# Altium integrated library AD DSP 16-Bit.IntLib: 146 symbols (part 1 of 7)
Pins are listed as number, name and electrical type; pins without a type are passive.

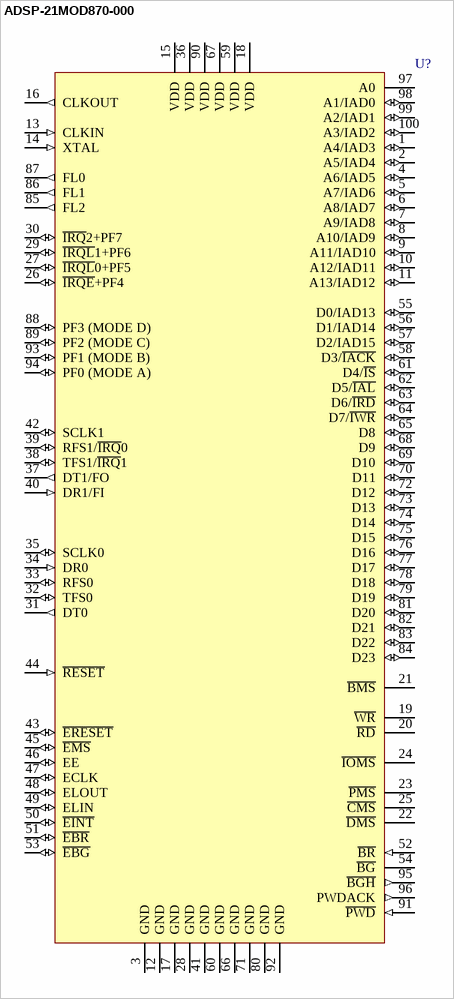
[diagram p0: symbol ADSP-21MOD870-000]

## ADSP-21MOD870-000
designator U?
First Complete Digital Modem On a Single Chip; Published: 24-Aug-2001; LatestRevisionDate: 13-Apr-2006; LatestRevisionNote: IPC-7351 Footprint Added.; DatasheetVersion: 1999; PackageVersion: 2000; PackageReference: ST-100; Publisher: Altium Limited; PackageDescription: 100-Pin Thin Plastic Quad Flat Pack 0.5 mm Pitch; ComponentLink1Description: Manufacturer Link; ComponentLink1URL: http://www.analog.com/; ComponentLink2Description: Datasheet; ComponentLink2URL: http://www.analog.com/UploadedFiles/Data_Sheets/228890382ADSP-21mod870_0.pdf
footprint ST-100_N (Thin QFP, 100-Leads, Body 14x14mm, Pitch 0.5mm, IPC Medium Density)
footprint ST-100_L (Thin QFP, 100-Leads, Body 14x14mm, Pitch 0.5mm, IPC High Density)
footprint ST-100_M (Thin QFP, 100-Leads, Body 14x14mm, Pitch 0.5mm, IPC Low Density)
3D model 21MOD870-ST100 (100-Pin Thin Plastic Quad Flat Pack 0.5 mm Pitch)
pins: 1 A4/IAD3 (io), 2 A5/IAD4 (io), 3 GND (power), 4 A6/IAD5 (io), 5 A7/IAD6 (io), 6 A8/IAD7 (io), 7 A9/IAD8 (io), 8 A10/IAD9 (io), 9 A11/IAD10 (io), 10 A12/IAD11 (io), 11 A13/IAD12 (io), 12 GND (power), 13 CLKIN (in), 14 XTAL (in), 15 VDD (power), 16 CLKOUT (out), 17 GND (power), 18 VDD (power), 19 ~{WR} (hiz), 20 ~{RD} (hiz), 21 ~{BMS} (hiz), 22 ~{DMS} (hiz), 23 ~{PMS} (hiz), 24 ~{IOMS} (hiz), 25 ~{CMS} (hiz), 26 ~{IRQE}+PF4 (io), 27 ~{IRQL}0+PF5 (io), 28 GND (power), 29 ~{IRQL}1+PF6 (io), 30 ~{IRQ}2+PF7 (io), 31 DT0 (out), 32 TFS0 (io), 33 RFS0 (io), 34 DR0 (in), 35 SCLK0 (io), 36 VDD (power), 37 DT1/FO (out), 38 TFS1/~{IRQ}1 (io), 39 RFS1/~{IRQ}0 (io), 40 DR1/FI (in), 41 GND (power), 42 SCLK1 (io), 43 ~{ERESET} (io), 44 ~{RESET} (in), 45 ~{EMS} (io), 46 EE (io), 47 ECLK (io), 48 ELOUT (io), 49 ELIN (io), 50 ~{EINT} (io), 51 ~{EBR} (io), 52 ~{BR} (in), 53 ~{EBG} (io), 54 ~{BG} (hiz), 55 D0/IAD13 (io), 56 D1/IAD14 (io), 57 D2/IAD15 (io), 58 D3/~{IACK} (io), 59 VDD (power), 60 GND (power), 61 D4/~{IS} (io), 62 D5/~{IAL} (io), 63 D6/~{IRD} (io), 64 D7/~{IWR} (io), 65 D8 (io), 66 GND (power), 67 VDD (power), 68 D9 (io), 69 D10 (io), 70 D11 (io), 71 GND (power), 72 D12 (io), 73 D13 (io), 74 D14 (io), 75 D15 (io), 76 D16 (io), 77 D17 (io), 78 D18 (io), 79 D19 (io), 80 GND (power), 81 D20 (io), 82 D21 (io), 83 D22 (io), 84 D23 (io), 85 FL2 (out), 86 FL1 (out), 87 FL0 (out), 88 PF3 (MODE D) (io), 89 PF2 (MODE C) (io), 90 VDD (power), 91 ~{PWD} (in), 92 GND (power), 93 PF1 (MODE B) (io), 94 PF0 (MODE A) (io), 95 ~{BGH} (out), 96 PWDACK (out), 97 A0 (hiz), 98 A1/IAD0 (io), 99 A2/IAD1 (io), 100 A3/IAD2 (io)

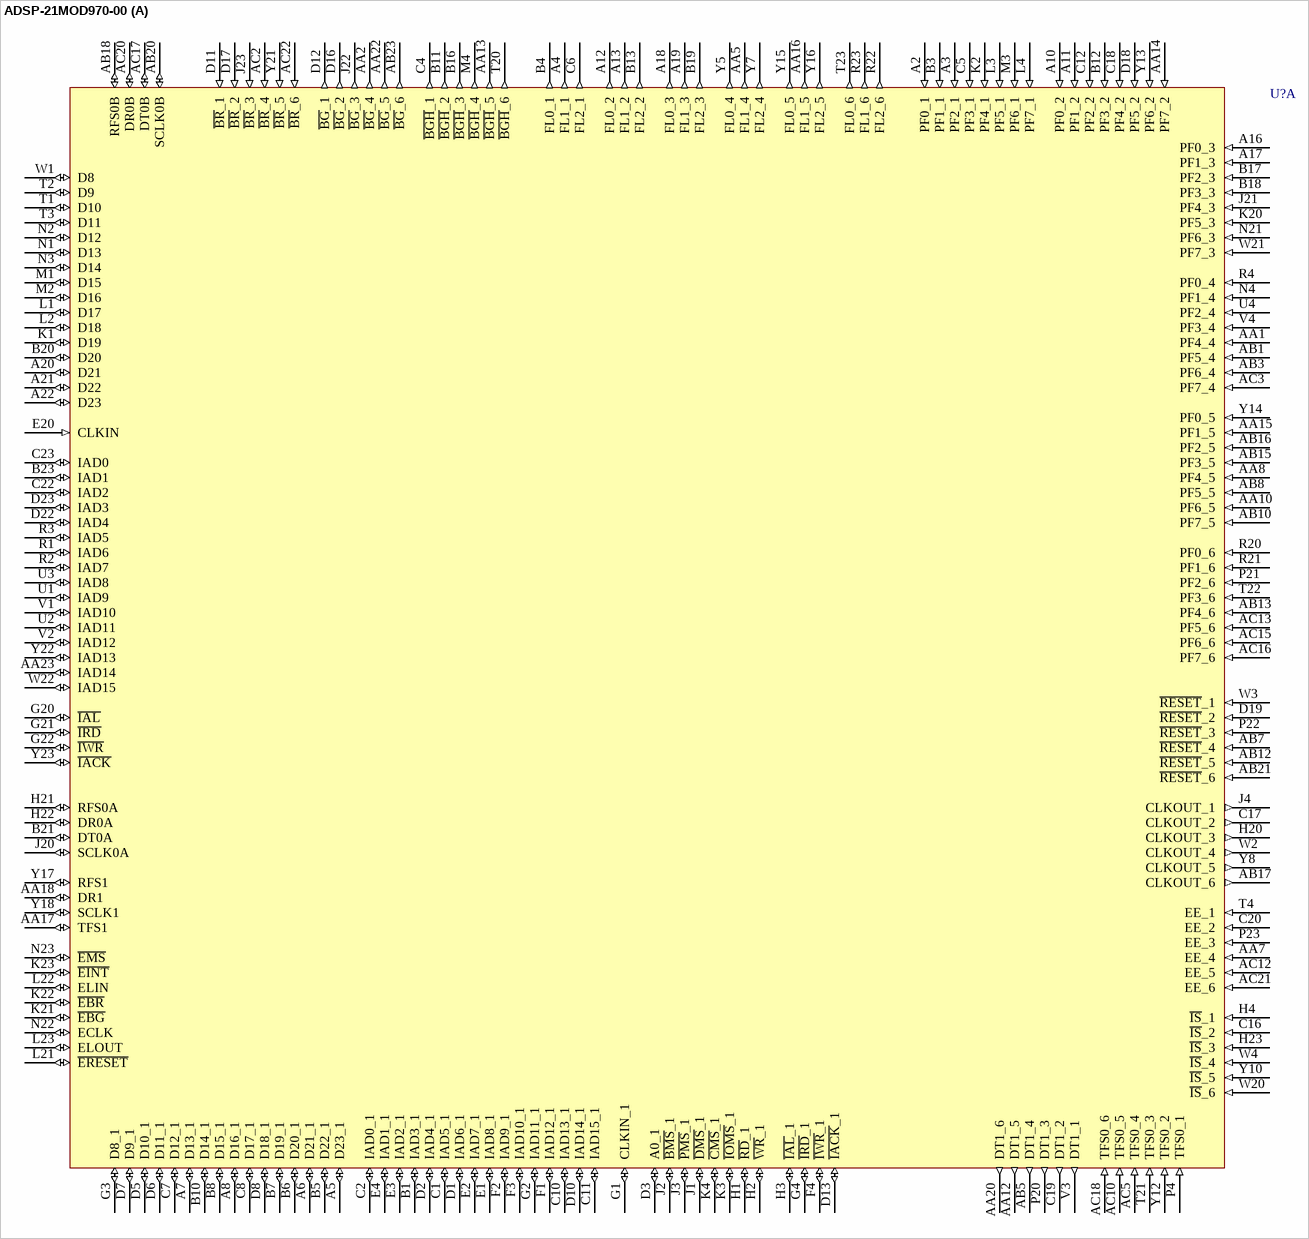
[diagram p1: symbol ADSP-21MOD970-00]

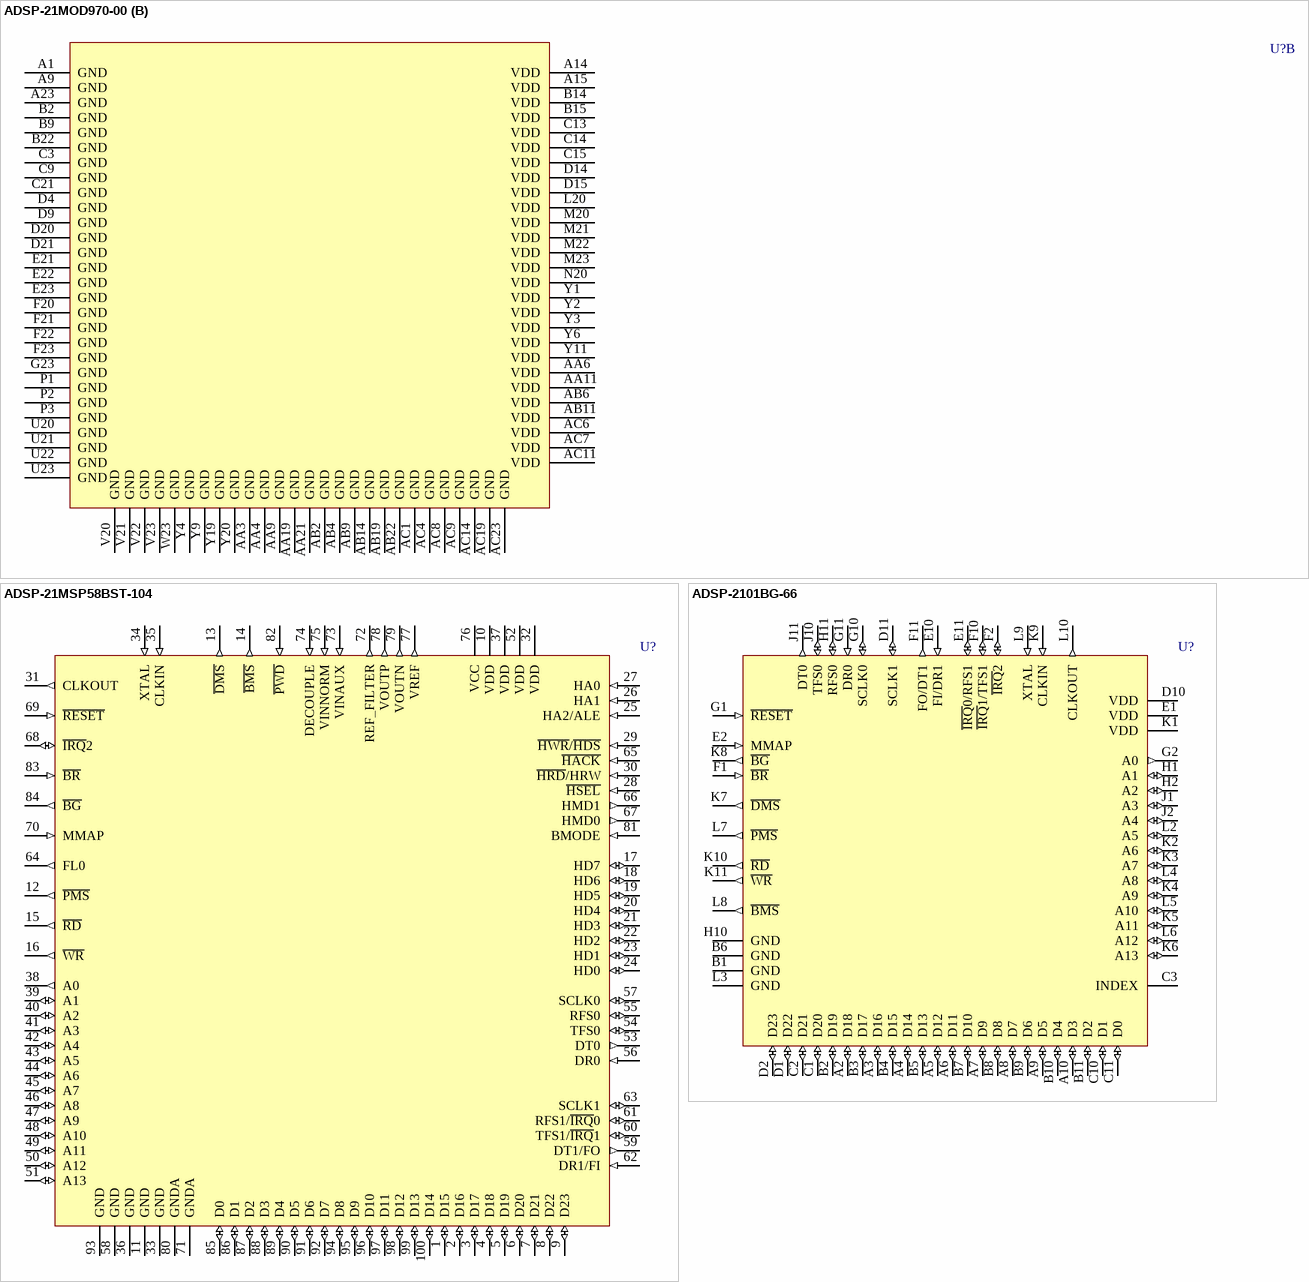
[diagram p2: symbols ADSP-21MOD970-00 to ADSP-2101BG-66]

## ADSP-21MOD970-00
designator U?
MultiPort Internet Gateway Processor; Published: 24-Aug-2001; LatestRevisionDate: 13-Apr-2006; LatestRevisionNote: IPC-7351 Footprint Added.; DatasheetVersion: 1999; PackageVersion: revA; PackageReference: BP-304; Publisher: Altium Limited; PackageDescription: 304-Ball Ball Grid Array 1.27 mm Pitch; ComponentLink1Description: Manufacturer Link; ComponentLink1URL: http://www.analog.com/; ComponentLink2Description: Datasheet; ComponentLink2URL: http://www.analog.com/UploadedFiles/Data_Sheets/217835067ADSP-21mod970-110_0.pdf
footprint BP-304 (BGA, 304-Leads, Body 31x31mm, Pitch 1.27mm)
3D model 21MOD970-BP304 (304-Ball Ball Grid Array 1.27 mm Pitch)
part A pins: A2 PF0_1 (in), A3 PF2_1 (in), A4 FL1_1 (out), A5 D23_1 (io), A6 D21_1 (io), A7 D13_1 (io), A8 D16_1 (io), A10 PF0_2 (in), A11 PF1_2 (in), A12 FL0_2 (out), A13 FL1_2 (out), A16 PF0_3 (in), A17 PF1_3 (in), A18 FL0_3 (out), A19 FL1_3 (out), A20 D21 (io), A21 D22 (io), A22 D23 (io), AA1 PF4_4 (in), AA2 ~{BG}_4 (out), AA5 FL1_4 (out), AA7 EE_4 (in), AA8 PF4_5 (in), AA10 PF6_5 (in), AA12 DT1_5 (out), AA13 ~{BGH}_5 (out), AA14 PF7_2 (in), AA15 PF1_5 (in), AA16 FL1_5 (out), AA17 TFS1 (io), AA18 DR1 (io), AA20 DT1_6 (out), AA22 ~{BG}_5 (out), AA23 IAD14 (io), AB1 PF5_4 (in), AB3 PF6_4 (in), AB5 DT1_4 (out), AB7 ~{RESET}_4 (in), AB8 PF5_5 (in), AB10 PF7_5 (in), AB12 ~{RESET}_5 (in), AB13 PF4_6 (in), AB15 PF3_5 (in), AB16 PF2_5 (in), AB17 CLKOUT_6 (out), AB18 RFS0B (io), AB20 SCLK0B (io), AB21 ~{RESET}_6 (in), AB23 ~{BG}_6 (out), AC2 ~{BR}_4 (in), AC3 PF7_4 (in), AC5 TFS0_4 (in), AC10 TFS0_5 (in), AC12 EE_5 (in), AC13 PF5_6 (in), AC15 PF6_6 (in), AC16 PF7_6 (in), AC17 DT0B (io), AC18 TFS0_6 (in), AC20 DR0B (io), AC21 EE_6 (in), AC22 ~{BR}_6 (in), B1 IAD3_1 (io), B3 PF1_1 (in), B4 FL0_1 (out), B5 D22_1 (io), B6 D20_1 (io), B7 D19_1 (io), B8 D15_1 (io), B10 D14_1 (io), B11 ~{BGH}_2 (out), B12 PF3_2 (in), B13 FL2_2 (out), B16 ~{BGH}_3 (out), B17 PF2_3 (in), B18 PF3_3 (in), B19 FL2_3 (out), B20 D20 (io), B21 DT0A (io), B23 IAD1 (io), C1 IAD5_1 (io), C2 IAD0_1 (io), C4 ~{BGH}_1 (out), C5 PF3_1 (in), C6 FL2_1 (out), C7 D12_1 (io), C8 D17_1 (io), C10 IAD13_1 (io), C11 IAD15_1 (io), C12 PF2_2 (in), C16 ~{IS}_2 (in), C17 CLKOUT_2 (out), C18 PF4_2 (in), C19 DT1_2 (out), C20 EE_2 (in), C22 IAD2 (io), C23 IAD0 (io), D1 IAD6_1 (io), D2 IAD4_1 (io), D3 A0_1 (io), D5 D10_1 (io), D6 D11_1 (io), D7 D9_1 (io), D8 D18_1 (io), D10 IAD14_1 (io), D11 ~{BR}_1 (in), D12 ~{BG}_1 (out), D13 ~{IACK}_1 (io), D16 ~{BG}_2 (out), D17 ~{BR}_2 (in), D18 PF5_2 (in), D19 ~{RESET}_2 (in), D22 IAD4 (io), D23 IAD3 (io), E1 IAD8_1 (io), E2 IAD7_1 (io), E3 IAD2_1 (io), E4 IAD1_1 (io), E20 CLKIN (in), F1 IAD12_1 (io), F2 IAD9_1 (io), F3 IAD10_1 (io), F4 ~{IWR}_1 (io), G1 CLKIN_1 (io), G2 IAD11_1 (io), G3 D8_1 (io), G4 ~{IRD}_1 (io), G20 ~{IAL} (io), G21 ~{IRD} (io), G22 ~{IWR} (io), H1 ~{RD}_1 (io), H2 ~{WR}_1 (io), H3 ~{IAL}_1 (io), H4 ~{IS}_1 (in), H20 CLKOUT_3 (out), H21 RFS0A (io), H22 DR0A (io), H23 ~{IS}_3 (in), J1 ~{DMS}_1 (io), J2 ~{BMS}_1 (io), J3 ~{PMS}_1 (io), J4 CLKOUT_1 (out), J20 SCLK0A (io), J21 PF4_3 (in), J22 ~{BG}_3 (out), J23 ~{BR}_3 (in), K1 D19 (io), K2 PF4_1 (in), K3 ~{IOMS}_1 (io), K4 ~{CMS}_1 (io), K20 PF5_3 (in), K21 ~{EBG} (io), K22 ~{EBR} (io), K23 ~{EINT} (io), L1 D17 (io), L2 D18 (io), L3 PF5_1 (in), L4 PF7_1 (in), L21 ~{ERESET} (io), L22 ELIN (io), L23 ELOUT (io), M1 D15 (io), M2 D16 (io), M3 PF6_1 (in), M4 ~{BGH}_4 (out), N1 D13 (io), N2 D12 (io), N3 D14 (io), N4 PF1_4 (in), N21 PF6_3 (in), N22 ECLK (io), N23 ~{EMS} (io), P4 TFS0_1 (in), P20 DT1_3 (out), P21 PF2_6 (in), P22 ~{RESET}_3 (in), P23 EE_3 (in), R1 IAD6 (io), R2 IAD7 (io), R3 IAD5 (io), R4 PF0_4 (in), R20 PF0_6 (in), R21 PF1_6 (in), R22 FL2_6 (out), R23 FL1_6 (out), T1 D10 (io), T2 D9 (io), T3 D11 (io), T4 EE_1 (in), T20 ~{BGH}_6 (out), T21 TFS0_3 (in), T22 PF3_6 (in), T23 FL0_6 (out), U1 IAD9 (io), U2 IAD11 (io), U3 IAD8 (io), U4 PF2_4 (in), V1 IAD10 (io), V2 IAD12 (io), V3 DT1_1 (out), V4 PF3_4 (in), W1 D8 (io), W2 CLKOUT_4 (out), W3 ~{RESET}_1 (in), W4 ~{IS}_4 (in), W20 ~{IS}_6 (in), W21 PF7_3 (in), W22 IAD15 (io), Y5 FL0_4 (out), Y7 FL2_4 (out), Y8 CLKOUT_5 (out), Y10 ~{IS}_5 (in), Y12 TFS0_2 (in), Y13 PF6_2 (in), Y14 PF0_5 (in), Y15 FL0_5 (out), Y16 FL2_5 (out), Y17 RFS1 (io), Y18 SCLK1 (io), Y21 ~{BR}_5 (in), Y22 IAD13 (io), Y23 ~{IACK} (io)
part B pins: A1 GND (power), A9 GND (power), A14 VDD (power), A15 VDD (power), A23 GND (power), AA3 GND (power), AA4 GND (power), AA6 VDD (power), AA9 GND (power), AA11 VDD (power), AA19 GND (power), AA21 GND (power), AB2 GND (power), AB4 GND (power), AB6 VDD (power), AB9 GND (power), AB11 VDD (power), AB14 GND (power), AB19 GND (power), AB22 GND (power), AC1 GND (power), AC4 GND (power), AC6 VDD (power), AC7 VDD (power), AC8 GND (power), AC9 GND (power), AC11 VDD (power), AC14 GND (power), AC19 GND (power), AC23 GND (power), B2 GND (power), B9 GND (power), B14 VDD (power), B15 VDD (power), B22 GND (power), C3 GND (power), C9 GND (power), C13 VDD (power), C14 VDD (power), C15 VDD (power), C21 GND (power), D4 GND (power), D9 GND (power), D14 VDD (power), D15 VDD (power), D20 GND (power), D21 GND (power), E21 GND (power), E22 GND (power), E23 GND (power), F20 GND (power), F21 GND (power), F22 GND (power), F23 GND (power), G23 GND (power), L20 VDD (power), M20 VDD (power), M21 VDD (power), M22 VDD (power), M23 VDD (power), N20 VDD (power), P1 GND (power), P2 GND (power), P3 GND (power), U20 GND (power), U21 GND (power), U22 GND (power), U23 GND (power), V20 GND (power), V21 GND (power), V22 GND (power), V23 GND (power), W23 GND (power), Y1 VDD (power), Y2 VDD (power), Y3 VDD (power), Y4 GND (power), Y6 VDD (power), Y9 GND (power), Y11 VDD (power), Y19 GND (power), Y20 GND (power)

## ADSP-21MSP58BST-104
designator U?
Fully-Integrated, Single-Chip DSP; Published: 24-Aug-2001; LatestRevisionDate: 13-Apr-2006; LatestRevisionNote: IPC-7351 Footprint Added.; DatasheetVersion: 1995; PackageVersion: 2000; PackageReference: ST-100; Publisher: Altium Limited; PackageDescription: 100-Pin Thin Plastic Quad Flat Pack 0.5 mm Pitch; ComponentLink1Description: Manufacturer Link; ComponentLink1URL: http://www.analog.com/; ComponentLink2Description: Datasheet; ComponentLink2URL: http://www.analog.com/UploadedFiles/Data_Sheets/411008276ADSP-21msp58_0.pdf
footprint ST-100_N (Thin QFP, 100-Leads, Body 14x14mm, Pitch 0.5mm, IPC Medium Density)
footprint ST-100_L (Thin QFP, 100-Leads, Body 14x14mm, Pitch 0.5mm, IPC High Density)
footprint ST-100_M (Thin QFP, 100-Leads, Body 14x14mm, Pitch 0.5mm, IPC Low Density)
3D model 21MSP58-ST100 (100-Pin Thin Plastic Quad Flat Pack 0.5 mm Pitch)
pins: 1 D15 (io), 2 D16 (io), 3 D17 (io), 4 D18 (io), 5 D19 (io), 6 D20 (io), 7 D21 (io), 8 D22 (io), 9 D23 (io), 10 VDD (power), 11 GND (power), 12 ~{PMS} (out), 13 ~{DMS} (out), 14 ~{BMS} (out), 15 ~{RD} (out), 16 ~{WR} (out), 17 HD7 (io), 18 HD6 (io), 19 HD5 (io), 20 HD4 (io), 21 HD3 (io), 22 HD2 (io), 23 HD1 (io), 24 HD0 (io), 25 HA2/ALE (in), 26 HA1 (in), 27 HA0 (in), 28 ~{HSEL} (in), 29 ~{HWR}/~{HDS} (in), 30 ~{HRD}/HRW (in), 31 CLKOUT (out), 32 VDD (power), 33 GND (power), 34 XTAL (in), 35 CLKIN (in), 36 GND (power), 37 VDD (power), 38 A0 (out), 39 A1 (io), 40 A2 (io), 41 A3 (io), 42 A4 (io), 43 A5 (io), 44 A6 (io), 45 A7 (io), 46 A8 (io), 47 A9 (io), 48 A10 (io), 49 A11 (io), 50 A12 (io), 51 A13 (io), 52 VDD (power), 53 DT0 (out), 54 TFS0 (io), 55 RFS0 (io), 56 DR0 (in), 57 SCLK0 (io), 58 GND (power), 59 DT1/FO (out), 60 TFS1/~{IRQ}1 (io), 61 RFS1/~{IRQ}0 (io), 62 DR1/FI (in), 63 SCLK1 (io), 64 FL0 (out), 65 ~{HACK} (in), 66 HMD1 (out), 67 HMD0 (out), 68 ~{IRQ}2 (io), 69 ~{RESET} (in), 70 MMAP (in), 71 GNDA (power), 72 REF_FILTER (out), 73 VINAUX (in), 74 DECOUPLE (in), 75 VINNORM (in), 76 VCC (power), 77 VREF (out), 78 VOUTP (out), 79 VOUTN (out), 80 GNDA (power), 81 BMODE (in), 82 ~{PWD} (in), 83 ~{BR} (in), 84 ~{BG} (out), 85 D0 (io), 86 D1 (io), 87 D2 (io), 88 D3 (io), 89 D4 (io), 90 D5 (io), 91 D6 (io), 92 D7 (io), 93 GND (power), 94 D8 (io), 95 D9 (io), 96 D10 (io), 97 D11 (io), 98 D12 (io), 99 D13 (io), 100 D14 (io)

## ADSP-2101BG-66
designator U?
25 MIPS, 5V, 2 Serial Ports; Published: 24-Aug-2001; LatestRevisionDate: 04-Mar-2005; LatestRevisionNote: Stylized 3D Model Added.; DatasheetVersion: 1996; PackageReference: G-68A; Publisher: Altium Limited; PackageDescription: 69-Pin Pin Grid Array 2.54 mm Pitch; ComponentLink1Description: Manufacturer Link; ComponentLink1URL: http://www.analog.com/; ComponentLink2Description: Datasheet; ComponentLink2URL: http://www.analog.com/UploadedFiles/Data_Sheets/88076770adsp21xx.pdf
footprint G-68A (PGA, 69-Leads, Body 28x28mm, Pitch 2.54mm)
3D model 2101-G68A (69-Pin Pin Grid Array 2.54 mm Pitch)
pins: A2 D18 (io), A3 D16 (io), A4 D14 (io), A5 D12 (io), A6 D11 (io), A7 D9 (io), A8 D7 (io), A9 D5 (io), A10 D3 (io), B1 GND (power), B2 D19 (io), B3 D17 (io), B4 D15 (io), B5 D13 (io), B6 GND (power), B7 D10 (io), B8 D8 (io), B9 D6 (io), B10 D4 (io), B11 D2 (io), C1 D20 (io), C2 D21 (io), C3 INDEX, C10 D1 (io), C11 D0 (io), D1 D22 (io), D2 D23 (io), D10 VDD (power), D11 SCLK1 (io), E1 VDD (power), E2 MMAP (in), E10 FI/DR1 (in), E11 ~{IRQ}0/RFS1 (io), F1 ~{BR} (in), F2 ~{IRQ}2 (io), F10 ~{IRQ}1/TFS1 (io), F11 FO/DT1 (out), G1 ~{RESET} (in), G2 A0 (out), G10 SCLK0 (io), G11 DR0 (in), H1 A1 (io), H2 A2 (io), H10 GND (power), H11 RFS0 (io), J1 A3 (io), J2 A4 (io), J10 TFS0 (io), J11 DT0 (out), K1 VDD (power), K2 A6 (io), K3 A7 (io), K4 A9 (io), K5 A11 (io), K6 A13 (io), K7 ~{DMS} (out), K8 ~{BG} (out), K9 CLKIN (in), K10 ~{RD} (out), K11 ~{WR} (out), L2 A5 (io), L3 GND (power), L4 A8 (io), L5 A10 (io), L6 A12 (io), L7 ~{PMS} (out), L8 ~{BMS} (out), L9 XTAL (in), L10 CLKOUT (out)

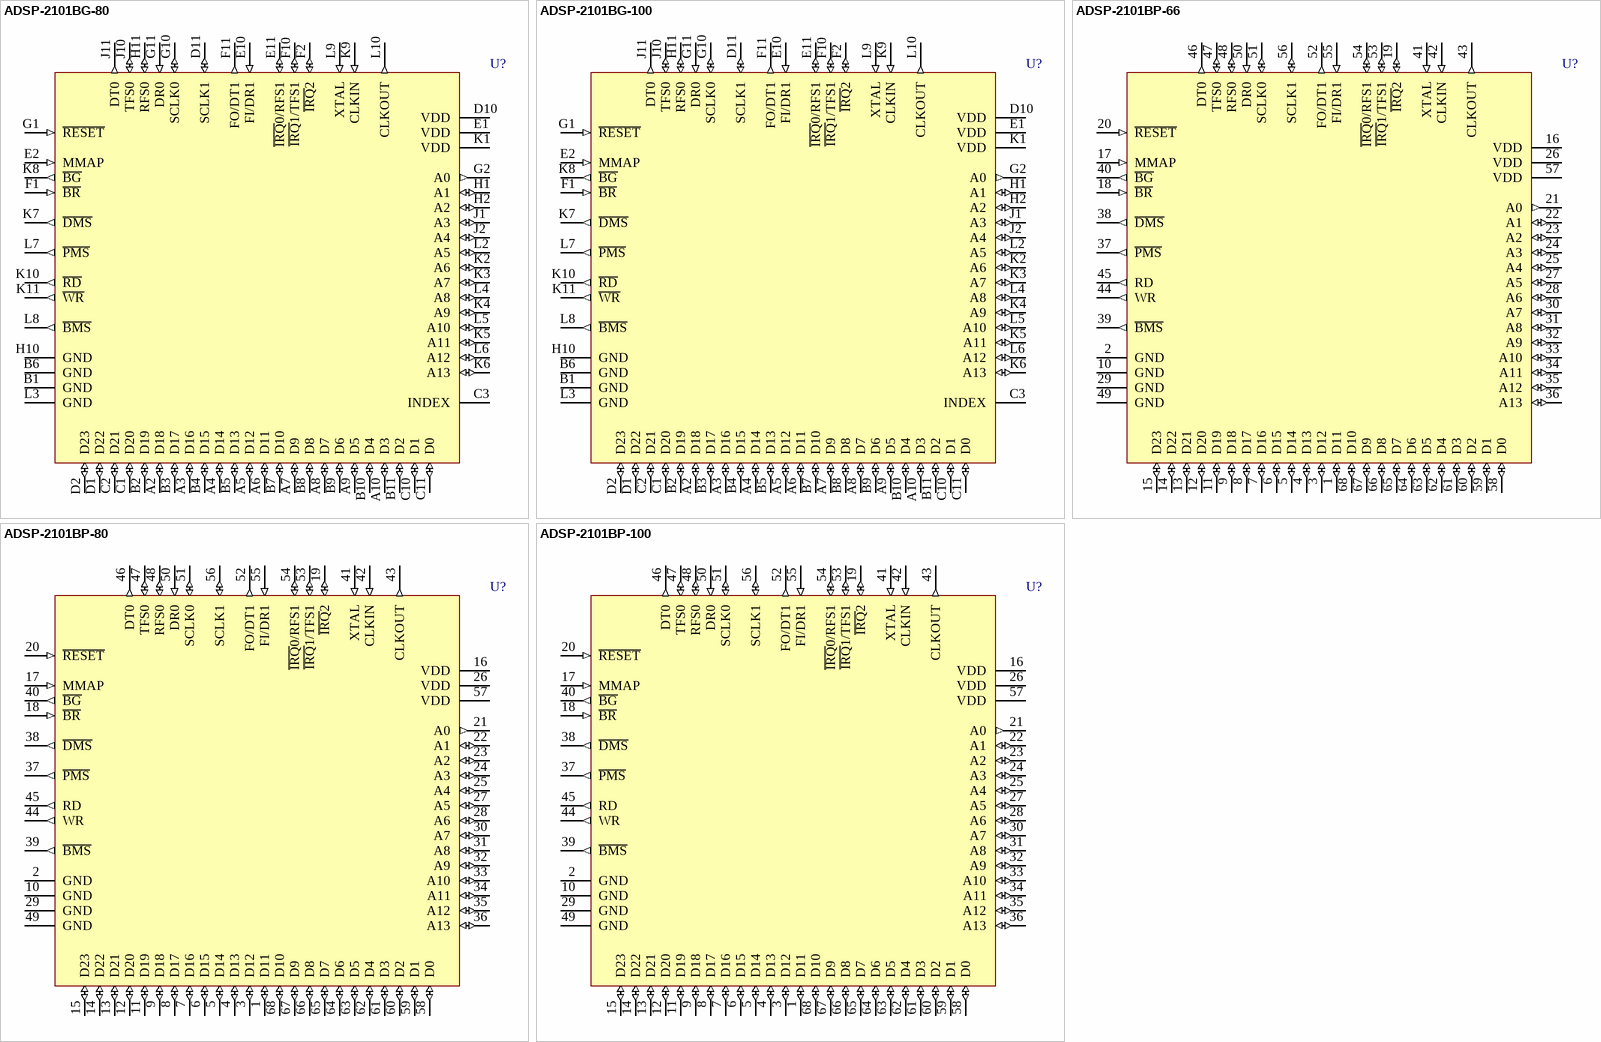
[diagram p3: symbols ADSP-2101BG-80 to ADSP-2101BP-100]

## ADSP-2101BG-80
designator U?
25 MIPS, 5V, 2 Serial Ports; Published: 24-Aug-2001; LatestRevisionDate: 04-Mar-2005; LatestRevisionNote: Stylized 3D Model Added.; DatasheetVersion: 1996; PackageReference: G-68A; Publisher: Altium Limited; PackageDescription: 69-Pin Pin Grid Array 2.54 mm Pitch; ComponentLink1Description: Manufacturer Link; ComponentLink1URL: http://www.analog.com/; ComponentLink2Description: Datasheet; ComponentLink2URL: http://www.analog.com/UploadedFiles/Data_Sheets/88076770adsp21xx.pdf
footprint G-68A (PGA, 69-Leads, Body 28x28mm, Pitch 2.54mm)
3D model 2101-G68A (69-Pin Pin Grid Array 2.54 mm Pitch)
pins: A2 D18 (io), A3 D16 (io), A4 D14 (io), A5 D12 (io), A6 D11 (io), A7 D9 (io), A8 D7 (io), A9 D5 (io), A10 D3 (io), B1 GND (power), B2 D19 (io), B3 D17 (io), B4 D15 (io), B5 D13 (io), B6 GND (power), B7 D10 (io), B8 D8 (io), B9 D6 (io), B10 D4 (io), B11 D2 (io), C1 D20 (io), C2 D21 (io), C3 INDEX, C10 D1 (io), C11 D0 (io), D1 D22 (io), D2 D23 (io), D10 VDD (power), D11 SCLK1 (io), E1 VDD (power), E2 MMAP (in), E10 FI/DR1 (in), E11 ~{IRQ}0/RFS1 (io), F1 ~{BR} (in), F2 ~{IRQ}2 (io), F10 ~{IRQ}1/TFS1 (io), F11 FO/DT1 (out), G1 ~{RESET} (in), G2 A0 (out), G10 SCLK0 (io), G11 DR0 (in), H1 A1 (io), H2 A2 (io), H10 GND (power), H11 RFS0 (io), J1 A3 (io), J2 A4 (io), J10 TFS0 (io), J11 DT0 (out), K1 VDD (power), K2 A6 (io), K3 A7 (io), K4 A9 (io), K5 A11 (io), K6 A13 (io), K7 ~{DMS} (out), K8 ~{BG} (out), K9 CLKIN (in), K10 ~{RD} (out), K11 ~{WR} (out), L2 A5 (io), L3 GND (power), L4 A8 (io), L5 A10 (io), L6 A12 (io), L7 ~{PMS} (out), L8 ~{BMS} (out), L9 XTAL (in), L10 CLKOUT (out)

## ADSP-2101BG-100
designator U?
25 MIPS, 5V, 2 Serial Ports; Published: 24-Aug-2001; LatestRevisionDate: 04-Mar-2005; LatestRevisionNote: Stylized 3D Model Added.; DatasheetVersion: 1996; PackageReference: G-68A; Publisher: Altium Limited; PackageDescription: 69-Pin Pin Grid Array 2.54 mm Pitch; ComponentLink1Description: Manufacturer Link; ComponentLink1URL: http://www.analog.com/; ComponentLink2Description: Datasheet; ComponentLink2URL: http://www.analog.com/UploadedFiles/Data_Sheets/88076770adsp21xx.pdf
footprint G-68A (PGA, 69-Leads, Body 28x28mm, Pitch 2.54mm)
3D model 2101-G68A (69-Pin Pin Grid Array 2.54 mm Pitch)
pins: A2 D18 (io), A3 D16 (io), A4 D14 (io), A5 D12 (io), A6 D11 (io), A7 D9 (io), A8 D7 (io), A9 D5 (io), A10 D3 (io), B1 GND (power), B2 D19 (io), B3 D17 (io), B4 D15 (io), B5 D13 (io), B6 GND (power), B7 D10 (io), B8 D8 (io), B9 D6 (io), B10 D4 (io), B11 D2 (io), C1 D20 (io), C2 D21 (io), C3 INDEX, C10 D1 (io), C11 D0 (io), D1 D22 (io), D2 D23 (io), D10 VDD (power), D11 SCLK1 (io), E1 VDD (power), E2 MMAP (in), E10 FI/DR1 (in), E11 ~{IRQ}0/RFS1 (io), F1 ~{BR} (in), F2 ~{IRQ}2 (io), F10 ~{IRQ}1/TFS1 (io), F11 FO/DT1 (out), G1 ~{RESET} (in), G2 A0 (out), G10 SCLK0 (io), G11 DR0 (in), H1 A1 (io), H2 A2 (io), H10 GND (power), H11 RFS0 (io), J1 A3 (io), J2 A4 (io), J10 TFS0 (io), J11 DT0 (out), K1 VDD (power), K2 A6 (io), K3 A7 (io), K4 A9 (io), K5 A11 (io), K6 A13 (io), K7 ~{DMS} (out), K8 ~{BG} (out), K9 CLKIN (in), K10 ~{RD} (out), K11 ~{WR} (out), L2 A5 (io), L3 GND (power), L4 A8 (io), L5 A10 (io), L6 A12 (io), L7 ~{PMS} (out), L8 ~{BMS} (out), L9 XTAL (in), L10 CLKOUT (out)

## ADSP-2101BP-66
designator U?
25 MIPS, 5V, 2 Serial Ports; Published: 24-Aug-2001; LatestRevisionDate: 13-Apr-2006; LatestRevisionNote: IPC-7351 Footprint Added.; DatasheetVersion: 1996; PackageReference: P-68A; Publisher: Altium Limited; PackageDescription: 68-Pin Leaded Chip Carrier 1.27 mm Pitch; Code_IPC: PLCC-68; ComponentLink1Description: Manufacturer Link; ComponentLink1URL: http://www.analog.com/; ComponentLink2Description: Datasheet; ComponentLink2URL: http://www.analog.com/UploadedFiles/Data_Sheets/88076770adsp21xx.pdf
footprint P-68A_N (Leaded Chip Carrier, 68-Leads, Body 24x24mm, Pitch 1.27mm, IPC Medium Density)
footprint P-68A_L (Leaded Chip Carrier, 68-Leads, Body 24x24mm, Pitch 1.27mm, IPC High Density)
footprint P-68A_M (Leaded Chip Carrier, 68-Leads, Body 24x24mm, Pitch 1.27mm, IPC Low Density)
3D model 2101-P-68A (68-Pin Leaded Chip Carrier 1.27 mm Pitch)
pins: 1 D11 (io), 2 GND (power), 3 D12 (io), 4 D13 (io), 5 D14 (io), 6 D15 (io), 7 D16 (io), 8 D17 (io), 9 D18 (io), 10 GND (power), 11 D19 (io), 12 D20 (io), 13 D21 (io), 14 D22 (io), 15 D23 (io), 16 VDD (power), 17 MMAP (in), 18 ~{BR} (in), 19 ~{IRQ}2 (io), 20 ~{RESET} (in), 21 A0 (out), 22 A1 (io), 23 A2 (io), 24 A3 (io), 25 A4 (io), 26 VDD (power), 27 A5 (io), 28 A6 (io), 29 GND (power), 30 A7 (io), 31 A8 (io), 32 A9 (io), 33 A10 (io), 34 A11 (io), 35 A12 (io), 36 A13 (io), 37 ~{PMS} (out), 38 ~{DMS} (out), 39 ~{BMS} (out), 40 ~{BG} (out), 41 XTAL (in), 42 CLKIN (in), 43 CLKOUT (out), 44 WR (out), 45 RD (out), 46 DT0 (out), 47 TFS0 (io), 48 RFS0 (io), 49 GND (power), 50 DR0 (in), 51 SCLK0 (io), 52 FO/DT1 (out), 53 ~{IRQ}1/TFS1 (io), 54 ~{IRQ}0/RFS1 (io), 55 FI/DR1 (in), 56 SCLK1 (io), 57 VDD (power), 58 D0 (io), 59 D1 (io), 60 D2 (io), 61 D3 (io), 62 D4 (io), 63 D5 (io), 64 D6 (io), 65 D7 (io), 66 D8 (io), 67 D9 (io), 68 D10 (io)

## ADSP-2101BP-80
designator U?
25 MIPS, 5V, 2 Serial Ports; Published: 24-Aug-2001; LatestRevisionDate: 13-Apr-2006; LatestRevisionNote: IPC-7351 Footprint Added.; DatasheetVersion: 1996; PackageReference: P-68A; Publisher: Altium Limited; PackageDescription: 68-Pin Leaded Chip Carrier 1.27 mm Pitch; Code_IPC: PLCC-68; ComponentLink1Description: Manufacturer Link; ComponentLink1URL: http://www.analog.com/; ComponentLink2Description: Datasheet; ComponentLink2URL: http://www.analog.com/UploadedFiles/Data_Sheets/88076770adsp21xx.pdf
footprint P-68A_N (Leaded Chip Carrier, 68-Leads, Body 24x24mm, Pitch 1.27mm, IPC Medium Density)
footprint P-68A_L (Leaded Chip Carrier, 68-Leads, Body 24x24mm, Pitch 1.27mm, IPC High Density)
footprint P-68A_M (Leaded Chip Carrier, 68-Leads, Body 24x24mm, Pitch 1.27mm, IPC Low Density)
3D model 2101-P-68A (68-Pin Leaded Chip Carrier 1.27 mm Pitch)
pins: 1 D11 (io), 2 GND (power), 3 D12 (io), 4 D13 (io), 5 D14 (io), 6 D15 (io), 7 D16 (io), 8 D17 (io), 9 D18 (io), 10 GND (power), 11 D19 (io), 12 D20 (io), 13 D21 (io), 14 D22 (io), 15 D23 (io), 16 VDD (power), 17 MMAP (in), 18 ~{BR} (in), 19 ~{IRQ}2 (io), 20 ~{RESET} (in), 21 A0 (out), 22 A1 (io), 23 A2 (io), 24 A3 (io), 25 A4 (io), 26 VDD (power), 27 A5 (io), 28 A6 (io), 29 GND (power), 30 A7 (io), 31 A8 (io), 32 A9 (io), 33 A10 (io), 34 A11 (io), 35 A12 (io), 36 A13 (io), 37 ~{PMS} (out), 38 ~{DMS} (out), 39 ~{BMS} (out), 40 ~{BG} (out), 41 XTAL (in), 42 CLKIN (in), 43 CLKOUT (out), 44 WR (out), 45 RD (out), 46 DT0 (out), 47 TFS0 (io), 48 RFS0 (io), 49 GND (power), 50 DR0 (in), 51 SCLK0 (io), 52 FO/DT1 (out), 53 ~{IRQ}1/TFS1 (io), 54 ~{IRQ}0/RFS1 (io), 55 FI/DR1 (in), 56 SCLK1 (io), 57 VDD (power), 58 D0 (io), 59 D1 (io), 60 D2 (io), 61 D3 (io), 62 D4 (io), 63 D5 (io), 64 D6 (io), 65 D7 (io), 66 D8 (io), 67 D9 (io), 68 D10 (io)

## ADSP-2101BP-100
designator U?
25 MIPS, 5V, 2 Serial Ports; Published: 24-Aug-2001; LatestRevisionDate: 13-Apr-2006; LatestRevisionNote: IPC-7351 Footprint Added.; DatasheetVersion: 1996; PackageReference: P-68A; Publisher: Altium Limited; PackageDescription: 68-Pin Leaded Chip Carrier 1.27 mm Pitch; Code_IPC: PLCC-68; ComponentLink1Description: Manufacturer Link; ComponentLink1URL: http://www.analog.com/; ComponentLink2Description: Datasheet; ComponentLink2URL: http://www.analog.com/UploadedFiles/Data_Sheets/88076770adsp21xx.pdf
footprint P-68A_N (Leaded Chip Carrier, 68-Leads, Body 24x24mm, Pitch 1.27mm, IPC Medium Density)
footprint P-68A_L (Leaded Chip Carrier, 68-Leads, Body 24x24mm, Pitch 1.27mm, IPC High Density)
footprint P-68A_M (Leaded Chip Carrier, 68-Leads, Body 24x24mm, Pitch 1.27mm, IPC Low Density)
3D model 2101-P-68A (68-Pin Leaded Chip Carrier 1.27 mm Pitch)
pins: 1 D11 (io), 2 GND (power), 3 D12 (io), 4 D13 (io), 5 D14 (io), 6 D15 (io), 7 D16 (io), 8 D17 (io), 9 D18 (io), 10 GND (power), 11 D19 (io), 12 D20 (io), 13 D21 (io), 14 D22 (io), 15 D23 (io), 16 VDD (power), 17 MMAP (in), 18 ~{BR} (in), 19 ~{IRQ}2 (io), 20 ~{RESET} (in), 21 A0 (out), 22 A1 (io), 23 A2 (io), 24 A3 (io), 25 A4 (io), 26 VDD (power), 27 A5 (io), 28 A6 (io), 29 GND (power), 30 A7 (io), 31 A8 (io), 32 A9 (io), 33 A10 (io), 34 A11 (io), 35 A12 (io), 36 A13 (io), 37 ~{PMS} (out), 38 ~{DMS} (out), 39 ~{BMS} (out), 40 ~{BG} (out), 41 XTAL (in), 42 CLKIN (in), 43 CLKOUT (out), 44 WR (out), 45 RD (out), 46 DT0 (out), 47 TFS0 (io), 48 RFS0 (io), 49 GND (power), 50 DR0 (in), 51 SCLK0 (io), 52 FO/DT1 (out), 53 ~{IRQ}1/TFS1 (io), 54 ~{IRQ}0/RFS1 (io), 55 FI/DR1 (in), 56 SCLK1 (io), 57 VDD (power), 58 D0 (io), 59 D1 (io), 60 D2 (io), 61 D3 (io), 62 D4 (io), 63 D5 (io), 64 D6 (io), 65 D7 (io), 66 D8 (io), 67 D9 (io), 68 D10 (io)

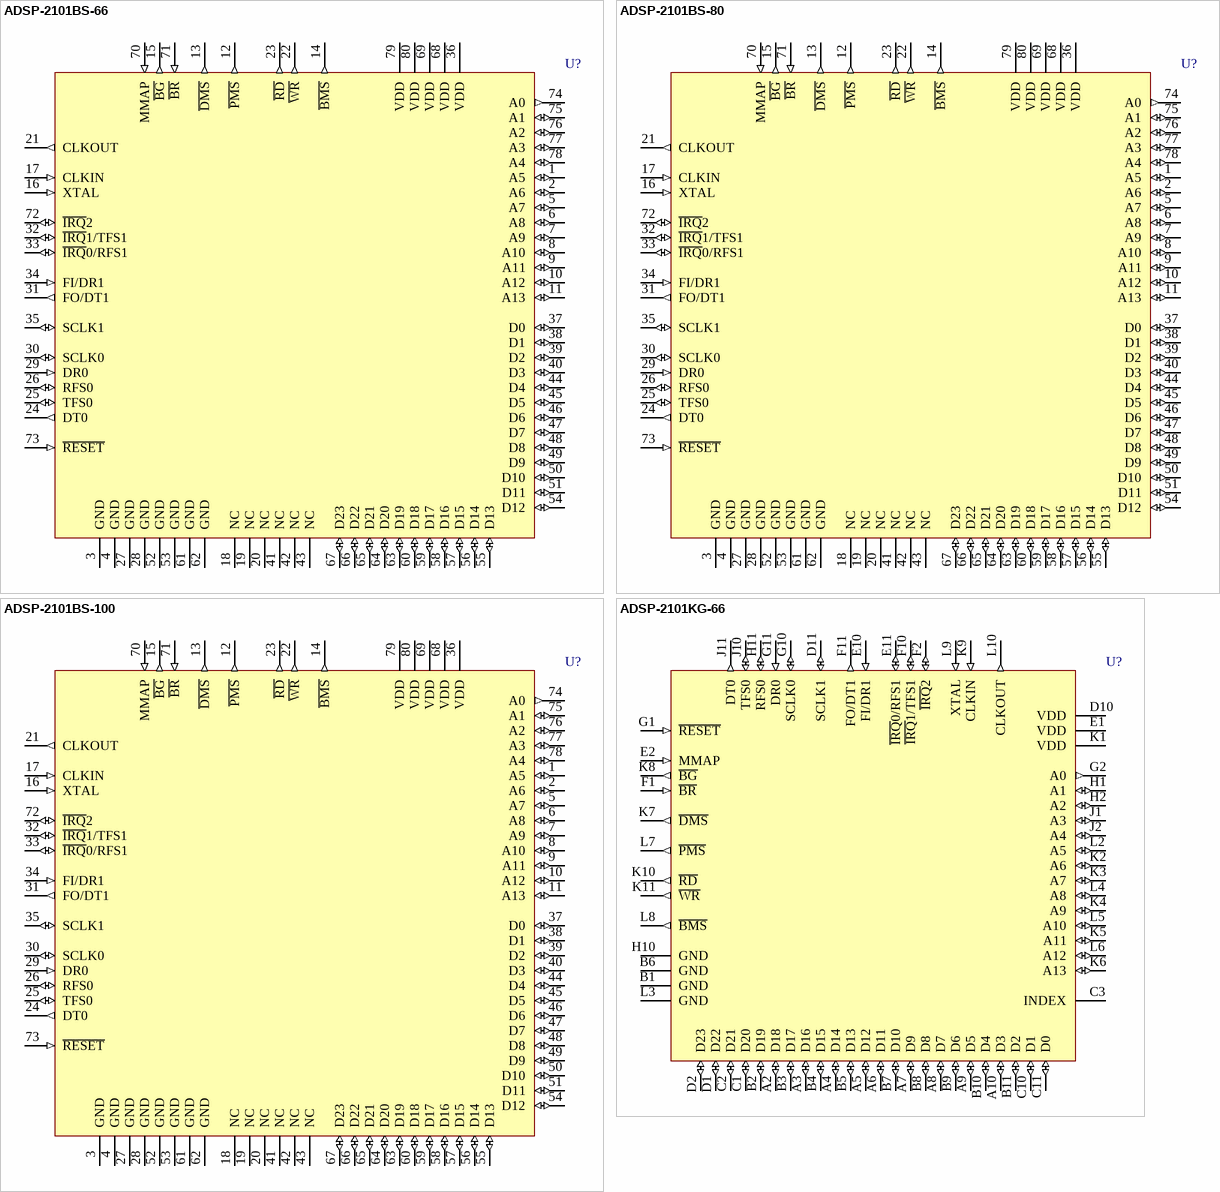
[diagram p4: symbols ADSP-2101BS-66 to ADSP-2101KG-66]

## ADSP-2101BS-66
designator U?
25 MIPS, 5V, 2 Serial Ports; Published: 24-Aug-2001; LatestRevisionDate: 13-Apr-2006; LatestRevisionNote: IPC-7351 Footprint Added.; DatasheetVersion: 1996; PackageVersion: 1996; PackageReference: S-80; Publisher: Altium Limited; PackageDescription: 80-Pin Quad Flat Pack 0.65 mm Pitch; Code_IPC: QFP65P1720X1720-80; ComponentLink1Description: Manufacturer Link; ComponentLink1URL: http://www.analog.com/; ComponentLink2Description: Datasheet; ComponentLink2URL: http://www.analog.com/UploadedFiles/Data_Sheets/88076770adsp21xx.pdf
footprint S-80_N (QFP, 80-Leads, Body 14 x 14mm, Pitch 0.65mm, IPC Medium Density)
footprint S-80_L (QFP, 80-Leads, Body 14 x 14mm, Pitch 0.65mm, IPC High Density)
footprint S-80_M (QFP, 80-Leads, Body 14 x 14mm, Pitch 0.65mm, IPC Low Density)
3D model 2101-S80 (80-Pin Quad Flat Pack 0.65 mm Pitch)
pins: 1 A5 (io), 2 A6 (io), 3 GND (power), 4 GND (power), 5 A7 (io), 6 A8 (io), 7 A9 (io), 8 A10 (io), 9 A11 (io), 10 A12 (io), 11 A13 (io), 12 ~{PMS} (out), 13 ~{DMS} (out), 14 ~{BMS} (out), 15 ~{BG} (out), 16 XTAL (in), 17 CLKIN (in), 18 NC, 19 NC, 20 NC, 21 CLKOUT (out), 22 ~{WR} (out), 23 ~{RD} (out), 24 DT0 (out), 25 TFS0 (io), 26 RFS0 (io), 27 GND (power), 28 GND (power), 29 DR0 (in), 30 SCLK0 (io), 31 FO/DT1 (out), 32 ~{IRQ}1/TFS1 (io), 33 ~{IRQ}0/RFS1 (io), 34 FI/DR1 (in), 35 SCLK1 (io), 36 VDD (power), 37 D0 (io), 38 D1 (io), 39 D2 (io), 40 D3 (io), 41 NC, 42 NC, 43 NC, 44 D4 (io), 45 D5 (io), 46 D6 (io), 47 D7 (io), 48 D8 (io), 49 D9 (io), 50 D10 (io), 51 D11 (io), 52 GND (power), 53 GND (power), 54 D12 (io), 55 D13 (io), 56 D14 (io), 57 D15 (io), 58 D16 (io), 59 D17 (io), 60 D18 (io), 61 GND (power), 62 GND (power), 63 D19 (io), 64 D20 (io), 65 D21 (io), 66 D22 (io), 67 D23 (io), 68 VDD (power), 69 VDD (power), 70 MMAP (in), 71 ~{BR} (in), 72 ~{IRQ}2 (io), 73 ~{RESET} (in), 74 A0 (out), 75 A1 (io), 76 A2 (io), 77 A3 (io), 78 A4 (io), 79 VDD (power), 80 VDD (power)

## ADSP-2101BS-80
designator U?
25 MIPS, 5V, 2 Serial Ports; Published: 24-Aug-2001; LatestRevisionDate: 13-Apr-2006; LatestRevisionNote: IPC-7351 Footprint Added.; DatasheetVersion: 1996; PackageVersion: 1996; PackageReference: S-80; Publisher: Altium Limited; PackageDescription: 80-Pin Quad Flat Pack 0.65 mm Pitch; Code_IPC: QFP65P1720X1720-80; ComponentLink1Description: Manufacturer Link; ComponentLink1URL: http://www.analog.com/; ComponentLink2Description: Datasheet; ComponentLink2URL: http://www.analog.com/UploadedFiles/Data_Sheets/88076770adsp21xx.pdf
footprint S-80_N (QFP, 80-Leads, Body 14 x 14mm, Pitch 0.65mm, IPC Medium Density)
footprint S-80_L (QFP, 80-Leads, Body 14 x 14mm, Pitch 0.65mm, IPC High Density)
footprint S-80_M (QFP, 80-Leads, Body 14 x 14mm, Pitch 0.65mm, IPC Low Density)
3D model 2101-S80 (80-Pin Quad Flat Pack 0.65 mm Pitch)
pins: 1 A5 (io), 2 A6 (io), 3 GND (power), 4 GND (power), 5 A7 (io), 6 A8 (io), 7 A9 (io), 8 A10 (io), 9 A11 (io), 10 A12 (io), 11 A13 (io), 12 ~{PMS} (out), 13 ~{DMS} (out), 14 ~{BMS} (out), 15 ~{BG} (out), 16 XTAL (in), 17 CLKIN (in), 18 NC, 19 NC, 20 NC, 21 CLKOUT (out), 22 ~{WR} (out), 23 ~{RD} (out), 24 DT0 (out), 25 TFS0 (io), 26 RFS0 (io), 27 GND (power), 28 GND (power), 29 DR0 (in), 30 SCLK0 (io), 31 FO/DT1 (out), 32 ~{IRQ}1/TFS1 (io), 33 ~{IRQ}0/RFS1 (io), 34 FI/DR1 (in), 35 SCLK1 (io), 36 VDD (power), 37 D0 (io), 38 D1 (io), 39 D2 (io), 40 D3 (io), 41 NC, 42 NC, 43 NC, 44 D4 (io), 45 D5 (io), 46 D6 (io), 47 D7 (io), 48 D8 (io), 49 D9 (io), 50 D10 (io), 51 D11 (io), 52 GND (power), 53 GND (power), 54 D12 (io), 55 D13 (io), 56 D14 (io), 57 D15 (io), 58 D16 (io), 59 D17 (io), 60 D18 (io), 61 GND (power), 62 GND (power), 63 D19 (io), 64 D20 (io), 65 D21 (io), 66 D22 (io), 67 D23 (io), 68 VDD (power), 69 VDD (power), 70 MMAP (in), 71 ~{BR} (in), 72 ~{IRQ}2 (io), 73 ~{RESET} (in), 74 A0 (out), 75 A1 (io), 76 A2 (io), 77 A3 (io), 78 A4 (io), 79 VDD (power), 80 VDD (power)

## ADSP-2101BS-100
designator U?
25 MIPS, 5V, 2 Serial Ports; Published: 24-Aug-2001; LatestRevisionDate: 13-Apr-2006; LatestRevisionNote: IPC-7351 Footprint Added.; DatasheetVersion: 1996; PackageVersion: 1996; PackageReference: S-80; Publisher: Altium Limited; PackageDescription: 80-Pin Quad Flat Pack 0.65 mm Pitch; Code_IPC: QFP65P1720X1720-80; ComponentLink1Description: Manufacturer Link; ComponentLink1URL: http://www.analog.com/; ComponentLink2Description: Datasheet; ComponentLink2URL: http://www.analog.com/UploadedFiles/Data_Sheets/88076770adsp21xx.pdf
footprint S-80_N (QFP, 80-Leads, Body 14 x 14mm, Pitch 0.65mm, IPC Medium Density)
footprint S-80_L (QFP, 80-Leads, Body 14 x 14mm, Pitch 0.65mm, IPC High Density)
footprint S-80_M (QFP, 80-Leads, Body 14 x 14mm, Pitch 0.65mm, IPC Low Density)
3D model 2101-S80 (80-Pin Quad Flat Pack 0.65 mm Pitch)
pins: 1 A5 (io), 2 A6 (io), 3 GND (power), 4 GND (power), 5 A7 (io), 6 A8 (io), 7 A9 (io), 8 A10 (io), 9 A11 (io), 10 A12 (io), 11 A13 (io), 12 ~{PMS} (out), 13 ~{DMS} (out), 14 ~{BMS} (out), 15 ~{BG} (out), 16 XTAL (in), 17 CLKIN (in), 18 NC, 19 NC, 20 NC, 21 CLKOUT (out), 22 ~{WR} (out), 23 ~{RD} (out), 24 DT0 (out), 25 TFS0 (io), 26 RFS0 (io), 27 GND (power), 28 GND (power), 29 DR0 (in), 30 SCLK0 (io), 31 FO/DT1 (out), 32 ~{IRQ}1/TFS1 (io), 33 ~{IRQ}0/RFS1 (io), 34 FI/DR1 (in), 35 SCLK1 (io), 36 VDD (power), 37 D0 (io), 38 D1 (io), 39 D2 (io), 40 D3 (io), 41 NC, 42 NC, 43 NC, 44 D4 (io), 45 D5 (io), 46 D6 (io), 47 D7 (io), 48 D8 (io), 49 D9 (io), 50 D10 (io), 51 D11 (io), 52 GND (power), 53 GND (power), 54 D12 (io), 55 D13 (io), 56 D14 (io), 57 D15 (io), 58 D16 (io), 59 D17 (io), 60 D18 (io), 61 GND (power), 62 GND (power), 63 D19 (io), 64 D20 (io), 65 D21 (io), 66 D22 (io), 67 D23 (io), 68 VDD (power), 69 VDD (power), 70 MMAP (in), 71 ~{BR} (in), 72 ~{IRQ}2 (io), 73 ~{RESET} (in), 74 A0 (out), 75 A1 (io), 76 A2 (io), 77 A3 (io), 78 A4 (io), 79 VDD (power), 80 VDD (power)

## ADSP-2101KG-66
designator U?
25 MIPS, 5V, 2 Serial Ports; Published: 24-Aug-2001; LatestRevisionDate: 04-Mar-2005; LatestRevisionNote: Stylized 3D Model Added.; DatasheetVersion: 1996; PackageReference: G-68A; Publisher: Altium Limited; PackageDescription: 69-Pin Pin Grid Array 2.54 mm Pitch; ComponentLink1Description: Manufacturer Link; ComponentLink1URL: http://www.analog.com/; ComponentLink2Description: Datasheet; ComponentLink2URL: http://www.analog.com/UploadedFiles/Data_Sheets/88076770adsp21xx.pdf
footprint G-68A (PGA, 69-Leads, Body 28x28mm, Pitch 2.54mm)
3D model 2101-G68A (69-Pin Pin Grid Array 2.54 mm Pitch)
pins: A2 D18 (io), A3 D16 (io), A4 D14 (io), A5 D12 (io), A6 D11 (io), A7 D9 (io), A8 D7 (io), A9 D5 (io), A10 D3 (io), B1 GND (power), B2 D19 (io), B3 D17 (io), B4 D15 (io), B5 D13 (io), B6 GND (power), B7 D10 (io), B8 D8 (io), B9 D6 (io), B10 D4 (io), B11 D2 (io), C1 D20 (io), C2 D21 (io), C3 INDEX, C10 D1 (io), C11 D0 (io), D1 D22 (io), D2 D23 (io), D10 VDD (power), D11 SCLK1 (io), E1 VDD (power), E2 MMAP (in), E10 FI/DR1 (in), E11 ~{IRQ}0/RFS1 (io), F1 ~{BR} (in), F2 ~{IRQ}2 (io), F10 ~{IRQ}1/TFS1 (io), F11 FO/DT1 (out), G1 ~{RESET} (in), G2 A0 (out), G10 SCLK0 (io), G11 DR0 (in), H1 A1 (io), H2 A2 (io), H10 GND (power), H11 RFS0 (io), J1 A3 (io), J2 A4 (io), J10 TFS0 (io), J11 DT0 (out), K1 VDD (power), K2 A6 (io), K3 A7 (io), K4 A9 (io), K5 A11 (io), K6 A13 (io), K7 ~{DMS} (out), K8 ~{BG} (out), K9 CLKIN (in), K10 ~{RD} (out), K11 ~{WR} (out), L2 A5 (io), L3 GND (power), L4 A8 (io), L5 A10 (io), L6 A12 (io), L7 ~{PMS} (out), L8 ~{BMS} (out), L9 XTAL (in), L10 CLKOUT (out)

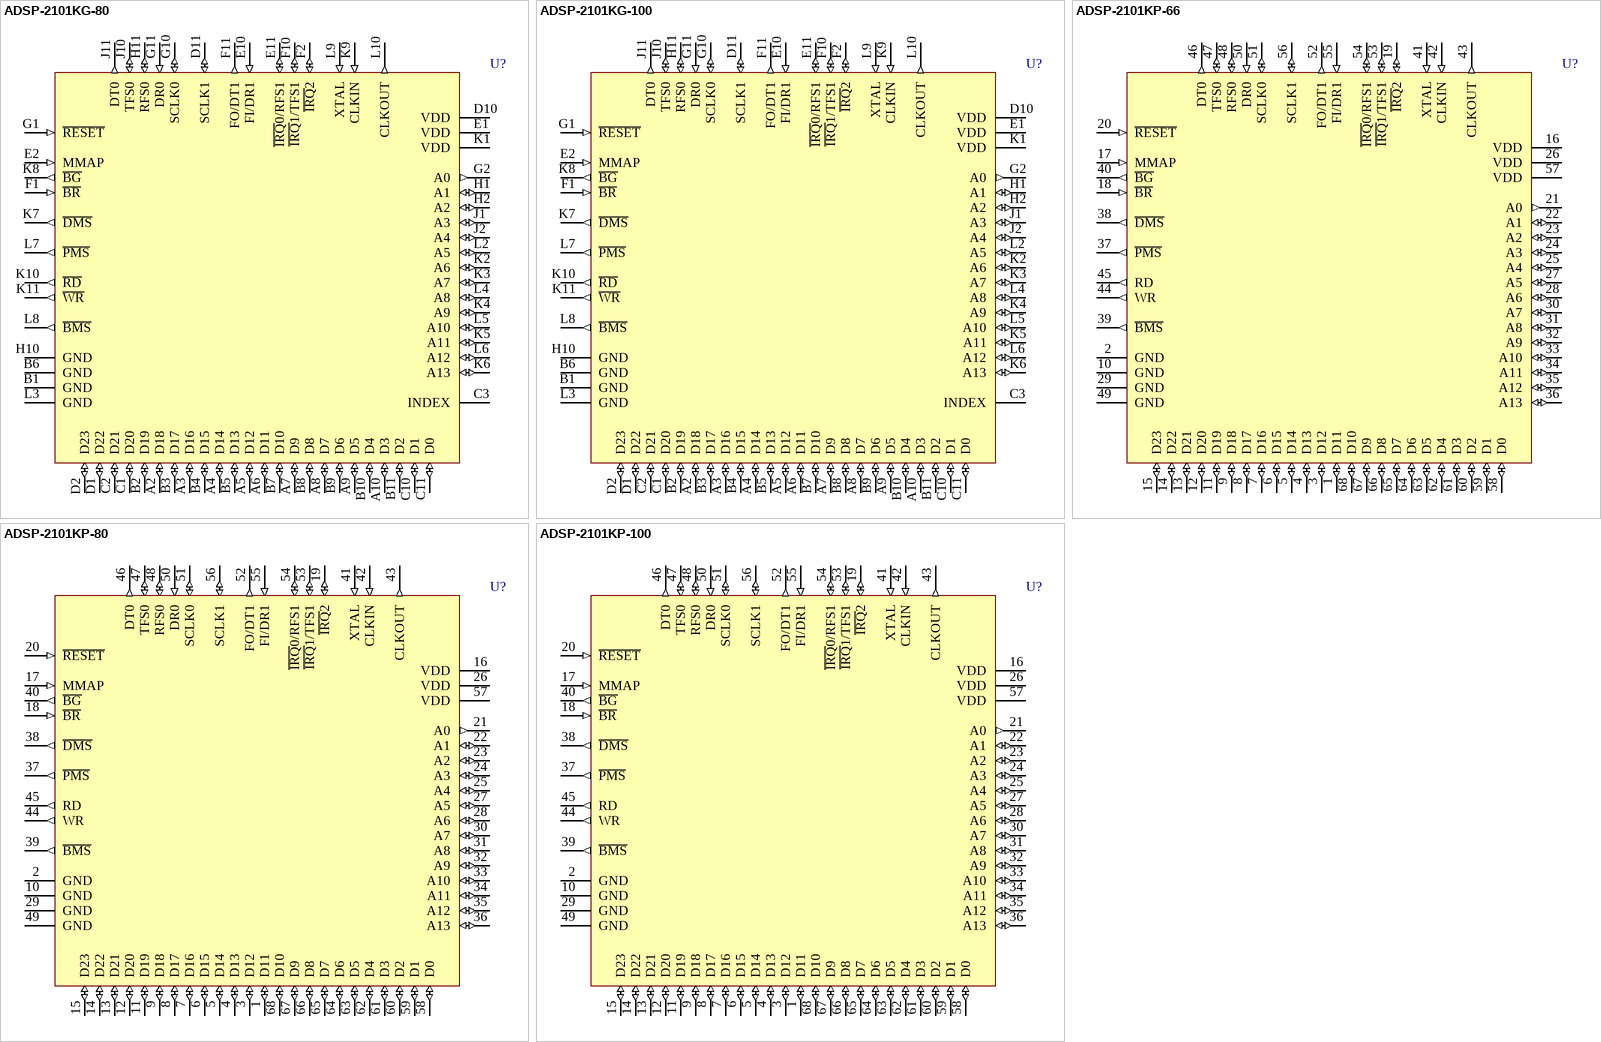
[diagram p5: symbols ADSP-2101KG-80 to ADSP-2101KP-100]

## ADSP-2101KG-80
designator U?
25 MIPS, 5V, 2 Serial Ports; Published: 24-Aug-2001; LatestRevisionDate: 04-Mar-2005; LatestRevisionNote: Stylized 3D Model Added.; DatasheetVersion: 1996; PackageReference: G-68A; Publisher: Altium Limited; PackageDescription: 69-Pin Pin Grid Array 2.54 mm Pitch; ComponentLink1Description: Manufacturer Link; ComponentLink1URL: http://www.analog.com/; ComponentLink2Description: Datasheet; ComponentLink2URL: http://www.analog.com/UploadedFiles/Data_Sheets/88076770adsp21xx.pdf
footprint G-68A (PGA, 69-Leads, Body 28x28mm, Pitch 2.54mm)
3D model 2101-G68A (69-Pin Pin Grid Array 2.54 mm Pitch)
pins: A2 D18 (io), A3 D16 (io), A4 D14 (io), A5 D12 (io), A6 D11 (io), A7 D9 (io), A8 D7 (io), A9 D5 (io), A10 D3 (io), B1 GND (power), B2 D19 (io), B3 D17 (io), B4 D15 (io), B5 D13 (io), B6 GND (power), B7 D10 (io), B8 D8 (io), B9 D6 (io), B10 D4 (io), B11 D2 (io), C1 D20 (io), C2 D21 (io), C3 INDEX, C10 D1 (io), C11 D0 (io), D1 D22 (io), D2 D23 (io), D10 VDD (power), D11 SCLK1 (io), E1 VDD (power), E2 MMAP (in), E10 FI/DR1 (in), E11 ~{IRQ}0/RFS1 (io), F1 ~{BR} (in), F2 ~{IRQ}2 (io), F10 ~{IRQ}1/TFS1 (io), F11 FO/DT1 (out), G1 ~{RESET} (in), G2 A0 (out), G10 SCLK0 (io), G11 DR0 (in), H1 A1 (io), H2 A2 (io), H10 GND (power), H11 RFS0 (io), J1 A3 (io), J2 A4 (io), J10 TFS0 (io), J11 DT0 (out), K1 VDD (power), K2 A6 (io), K3 A7 (io), K4 A9 (io), K5 A11 (io), K6 A13 (io), K7 ~{DMS} (out), K8 ~{BG} (out), K9 CLKIN (in), K10 ~{RD} (out), K11 ~{WR} (out), L2 A5 (io), L3 GND (power), L4 A8 (io), L5 A10 (io), L6 A12 (io), L7 ~{PMS} (out), L8 ~{BMS} (out), L9 XTAL (in), L10 CLKOUT (out)

## ADSP-2101KG-100
designator U?
25 MIPS, 5V, 2 Serial Ports; Published: 24-Aug-2001; LatestRevisionDate: 04-Mar-2005; LatestRevisionNote: Stylized 3D Model Added.; DatasheetVersion: 1996; PackageReference: G-68A; Publisher: Altium Limited; PackageDescription: 69-Pin Pin Grid Array 2.54 mm Pitch; ComponentLink1Description: Manufacturer Link; ComponentLink1URL: http://www.analog.com/; ComponentLink2Description: Datasheet; ComponentLink2URL: http://www.analog.com/UploadedFiles/Data_Sheets/88076770adsp21xx.pdf
footprint G-68A (PGA, 69-Leads, Body 28x28mm, Pitch 2.54mm)
3D model 2101-G68A (69-Pin Pin Grid Array 2.54 mm Pitch)
pins: A2 D18 (io), A3 D16 (io), A4 D14 (io), A5 D12 (io), A6 D11 (io), A7 D9 (io), A8 D7 (io), A9 D5 (io), A10 D3 (io), B1 GND (power), B2 D19 (io), B3 D17 (io), B4 D15 (io), B5 D13 (io), B6 GND (power), B7 D10 (io), B8 D8 (io), B9 D6 (io), B10 D4 (io), B11 D2 (io), C1 D20 (io), C2 D21 (io), C3 INDEX, C10 D1 (io), C11 D0 (io), D1 D22 (io), D2 D23 (io), D10 VDD (power), D11 SCLK1 (io), E1 VDD (power), E2 MMAP (in), E10 FI/DR1 (in), E11 ~{IRQ}0/RFS1 (io), F1 ~{BR} (in), F2 ~{IRQ}2 (io), F10 ~{IRQ}1/TFS1 (io), F11 FO/DT1 (out), G1 ~{RESET} (in), G2 A0 (out), G10 SCLK0 (io), G11 DR0 (in), H1 A1 (io), H2 A2 (io), H10 GND (power), H11 RFS0 (io), J1 A3 (io), J2 A4 (io), J10 TFS0 (io), J11 DT0 (out), K1 VDD (power), K2 A6 (io), K3 A7 (io), K4 A9 (io), K5 A11 (io), K6 A13 (io), K7 ~{DMS} (out), K8 ~{BG} (out), K9 CLKIN (in), K10 ~{RD} (out), K11 ~{WR} (out), L2 A5 (io), L3 GND (power), L4 A8 (io), L5 A10 (io), L6 A12 (io), L7 ~{PMS} (out), L8 ~{BMS} (out), L9 XTAL (in), L10 CLKOUT (out)

## ADSP-2101KP-66
designator U?
25 MIPS, 5V, 2 Serial Ports; Published: 24-Aug-2001; LatestRevisionDate: 13-Apr-2006; LatestRevisionNote: IPC-7351 Footprint Added.; DatasheetVersion: 1996; PackageReference: P-68A; Publisher: Altium Limited; PackageDescription: 68-Pin Leaded Chip Carrier 1.27 mm Pitch; Code_IPC: PLCC-68; ComponentLink1Description: Manufacturer Link; ComponentLink1URL: http://www.analog.com/; ComponentLink2Description: Datasheet; ComponentLink2URL: http://www.analog.com/UploadedFiles/Data_Sheets/88076770adsp21xx.pdf
footprint P-68A_N (Leaded Chip Carrier, 68-Leads, Body 24x24mm, Pitch 1.27mm, IPC Medium Density)
footprint P-68A_L (Leaded Chip Carrier, 68-Leads, Body 24x24mm, Pitch 1.27mm, IPC High Density)
footprint P-68A_M (Leaded Chip Carrier, 68-Leads, Body 24x24mm, Pitch 1.27mm, IPC Low Density)
3D model 2101-P-68A (68-Pin Leaded Chip Carrier 1.27 mm Pitch)
pins: 1 D11 (io), 2 GND (power), 3 D12 (io), 4 D13 (io), 5 D14 (io), 6 D15 (io), 7 D16 (io), 8 D17 (io), 9 D18 (io), 10 GND (power), 11 D19 (io), 12 D20 (io), 13 D21 (io), 14 D22 (io), 15 D23 (io), 16 VDD (power), 17 MMAP (in), 18 ~{BR} (in), 19 ~{IRQ}2 (io), 20 ~{RESET} (in), 21 A0 (out), 22 A1 (io), 23 A2 (io), 24 A3 (io), 25 A4 (io), 26 VDD (power), 27 A5 (io), 28 A6 (io), 29 GND (power), 30 A7 (io), 31 A8 (io), 32 A9 (io), 33 A10 (io), 34 A11 (io), 35 A12 (io), 36 A13 (io), 37 ~{PMS} (out), 38 ~{DMS} (out), 39 ~{BMS} (out), 40 ~{BG} (out), 41 XTAL (in), 42 CLKIN (in), 43 CLKOUT (out), 44 WR (out), 45 RD (out), 46 DT0 (out), 47 TFS0 (io), 48 RFS0 (io), 49 GND (power), 50 DR0 (in), 51 SCLK0 (io), 52 FO/DT1 (out), 53 ~{IRQ}1/TFS1 (io), 54 ~{IRQ}0/RFS1 (io), 55 FI/DR1 (in), 56 SCLK1 (io), 57 VDD (power), 58 D0 (io), 59 D1 (io), 60 D2 (io), 61 D3 (io), 62 D4 (io), 63 D5 (io), 64 D6 (io), 65 D7 (io), 66 D8 (io), 67 D9 (io), 68 D10 (io)

## ADSP-2101KP-80
designator U?
25 MIPS, 5V, 2 Serial Ports; Published: 24-Aug-2001; LatestRevisionDate: 13-Apr-2006; LatestRevisionNote: IPC-7351 Footprint Added.; DatasheetVersion: 1996; PackageReference: P-68A; Publisher: Altium Limited; PackageDescription: 68-Pin Leaded Chip Carrier 1.27 mm Pitch; Code_IPC: PLCC-68; ComponentLink1Description: Manufacturer Link; ComponentLink1URL: http://www.analog.com/; ComponentLink2Description: Datasheet; ComponentLink2URL: http://www.analog.com/UploadedFiles/Data_Sheets/88076770adsp21xx.pdf
footprint P-68A_N (Leaded Chip Carrier, 68-Leads, Body 24x24mm, Pitch 1.27mm, IPC Medium Density)
footprint P-68A_L (Leaded Chip Carrier, 68-Leads, Body 24x24mm, Pitch 1.27mm, IPC High Density)
footprint P-68A_M (Leaded Chip Carrier, 68-Leads, Body 24x24mm, Pitch 1.27mm, IPC Low Density)
3D model 2101-P-68A (68-Pin Leaded Chip Carrier 1.27 mm Pitch)
pins: 1 D11 (io), 2 GND (power), 3 D12 (io), 4 D13 (io), 5 D14 (io), 6 D15 (io), 7 D16 (io), 8 D17 (io), 9 D18 (io), 10 GND (power), 11 D19 (io), 12 D20 (io), 13 D21 (io), 14 D22 (io), 15 D23 (io), 16 VDD (power), 17 MMAP (in), 18 ~{BR} (in), 19 ~{IRQ}2 (io), 20 ~{RESET} (in), 21 A0 (out), 22 A1 (io), 23 A2 (io), 24 A3 (io), 25 A4 (io), 26 VDD (power), 27 A5 (io), 28 A6 (io), 29 GND (power), 30 A7 (io), 31 A8 (io), 32 A9 (io), 33 A10 (io), 34 A11 (io), 35 A12 (io), 36 A13 (io), 37 ~{PMS} (out), 38 ~{DMS} (out), 39 ~{BMS} (out), 40 ~{BG} (out), 41 XTAL (in), 42 CLKIN (in), 43 CLKOUT (out), 44 WR (out), 45 RD (out), 46 DT0 (out), 47 TFS0 (io), 48 RFS0 (io), 49 GND (power), 50 DR0 (in), 51 SCLK0 (io), 52 FO/DT1 (out), 53 ~{IRQ}1/TFS1 (io), 54 ~{IRQ}0/RFS1 (io), 55 FI/DR1 (in), 56 SCLK1 (io), 57 VDD (power), 58 D0 (io), 59 D1 (io), 60 D2 (io), 61 D3 (io), 62 D4 (io), 63 D5 (io), 64 D6 (io), 65 D7 (io), 66 D8 (io), 67 D9 (io), 68 D10 (io)

## ADSP-2101KP-100
designator U?
25 MIPS, 5V, 2 Serial Ports; Published: 24-Aug-2001; LatestRevisionDate: 13-Apr-2006; LatestRevisionNote: IPC-7351 Footprint Added.; DatasheetVersion: 1996; PackageReference: P-68A; Publisher: Altium Limited; PackageDescription: 68-Pin Leaded Chip Carrier 1.27 mm Pitch; Code_IPC: PLCC-68; ComponentLink1Description: Manufacturer Link; ComponentLink1URL: http://www.analog.com/; ComponentLink2Description: Datasheet; ComponentLink2URL: http://www.analog.com/UploadedFiles/Data_Sheets/88076770adsp21xx.pdf
footprint P-68A_N (Leaded Chip Carrier, 68-Leads, Body 24x24mm, Pitch 1.27mm, IPC Medium Density)
footprint P-68A_L (Leaded Chip Carrier, 68-Leads, Body 24x24mm, Pitch 1.27mm, IPC High Density)
footprint P-68A_M (Leaded Chip Carrier, 68-Leads, Body 24x24mm, Pitch 1.27mm, IPC Low Density)
3D model 2101-P-68A (68-Pin Leaded Chip Carrier 1.27 mm Pitch)
pins: 1 D11 (io), 2 GND (power), 3 D12 (io), 4 D13 (io), 5 D14 (io), 6 D15 (io), 7 D16 (io), 8 D17 (io), 9 D18 (io), 10 GND (power), 11 D19 (io), 12 D20 (io), 13 D21 (io), 14 D22 (io), 15 D23 (io), 16 VDD (power), 17 MMAP (in), 18 ~{BR} (in), 19 ~{IRQ}2 (io), 20 ~{RESET} (in), 21 A0 (out), 22 A1 (io), 23 A2 (io), 24 A3 (io), 25 A4 (io), 26 VDD (power), 27 A5 (io), 28 A6 (io), 29 GND (power), 30 A7 (io), 31 A8 (io), 32 A9 (io), 33 A10 (io), 34 A11 (io), 35 A12 (io), 36 A13 (io), 37 ~{PMS} (out), 38 ~{DMS} (out), 39 ~{BMS} (out), 40 ~{BG} (out), 41 XTAL (in), 42 CLKIN (in), 43 CLKOUT (out), 44 WR (out), 45 RD (out), 46 DT0 (out), 47 TFS0 (io), 48 RFS0 (io), 49 GND (power), 50 DR0 (in), 51 SCLK0 (io), 52 FO/DT1 (out), 53 ~{IRQ}1/TFS1 (io), 54 ~{IRQ}0/RFS1 (io), 55 FI/DR1 (in), 56 SCLK1 (io), 57 VDD (power), 58 D0 (io), 59 D1 (io), 60 D2 (io), 61 D3 (io), 62 D4 (io), 63 D5 (io), 64 D6 (io), 65 D7 (io), 66 D8 (io), 67 D9 (io), 68 D10 (io)

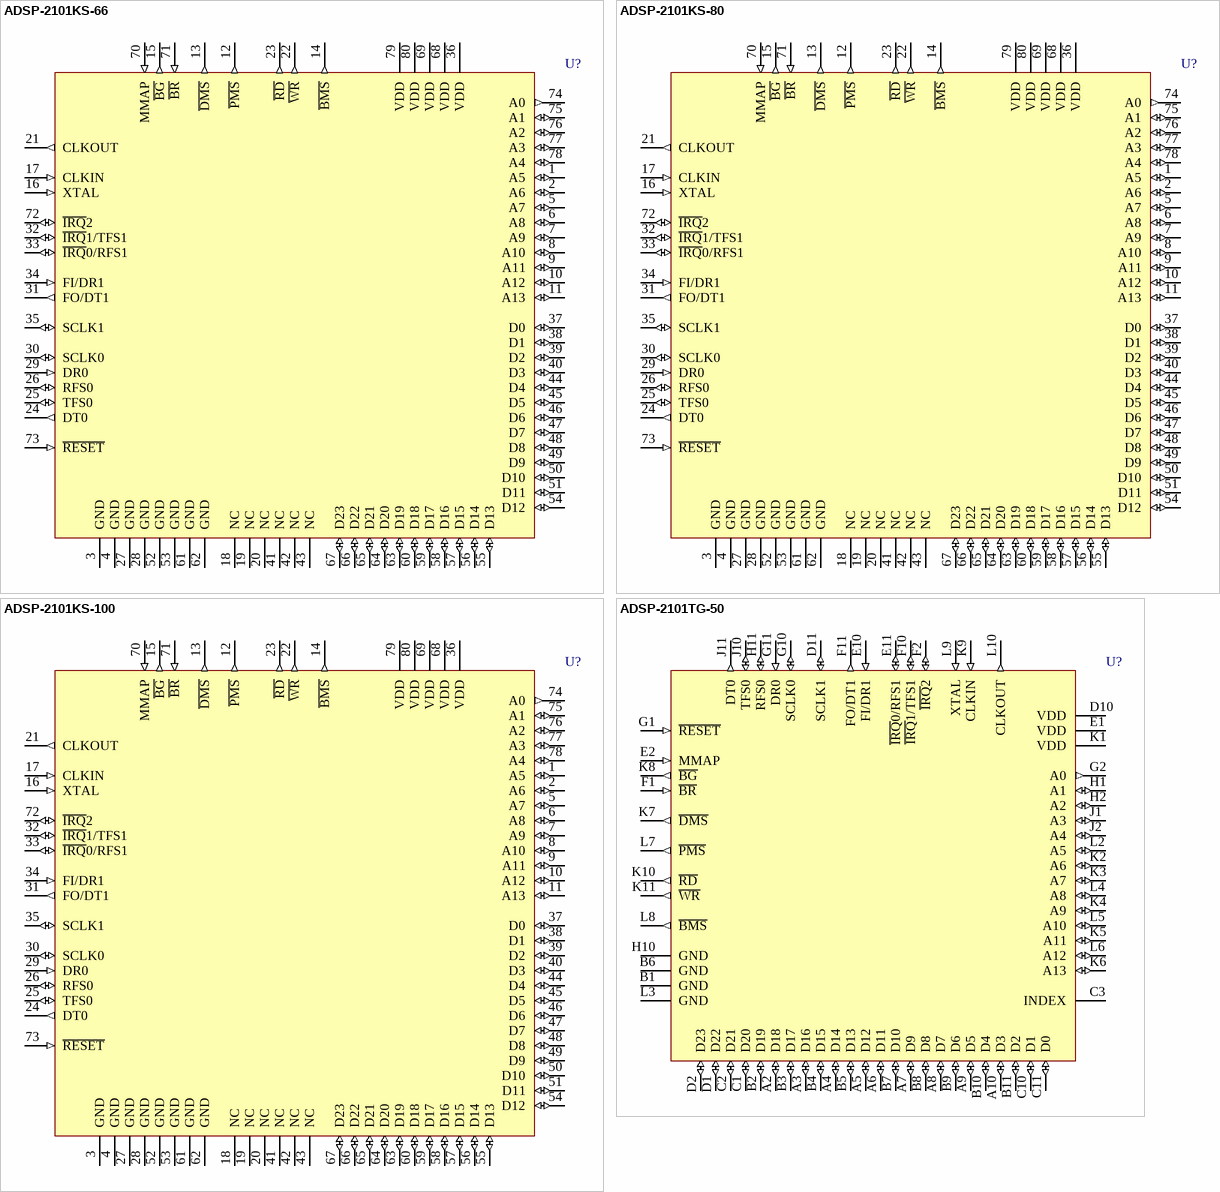
[diagram p6: symbols ADSP-2101KS-66 to ADSP-2101TG-50]

## ADSP-2101KS-66
designator U?
25 MIPS, 5V, 2 Serial Ports; Published: 24-Aug-2001; LatestRevisionDate: 13-Apr-2006; LatestRevisionNote: IPC-7351 Footprint Added.; DatasheetVersion: 1996; PackageVersion: 1996; PackageReference: S-80; Publisher: Altium Limited; PackageDescription: 80-Pin Quad Flat Pack 0.65 mm Pitch; Code_IPC: QFP65P1720X1720-80; ComponentLink1Description: Manufacturer Link; ComponentLink1URL: http://www.analog.com/; ComponentLink2Description: Datasheet; ComponentLink2URL: http://www.analog.com/UploadedFiles/Data_Sheets/88076770adsp21xx.pdf
footprint S-80_N (QFP, 80-Leads, Body 14 x 14mm, Pitch 0.65mm, IPC Medium Density)
footprint S-80_L (QFP, 80-Leads, Body 14 x 14mm, Pitch 0.65mm, IPC High Density)
footprint S-80_M (QFP, 80-Leads, Body 14 x 14mm, Pitch 0.65mm, IPC Low Density)
3D model 2101-S80 (80-Pin Quad Flat Pack 0.65 mm Pitch)
pins: 1 A5 (io), 2 A6 (io), 3 GND (power), 4 GND (power), 5 A7 (io), 6 A8 (io), 7 A9 (io), 8 A10 (io), 9 A11 (io), 10 A12 (io), 11 A13 (io), 12 ~{PMS} (out), 13 ~{DMS} (out), 14 ~{BMS} (out), 15 ~{BG} (out), 16 XTAL (in), 17 CLKIN (in), 18 NC, 19 NC, 20 NC, 21 CLKOUT (out), 22 ~{WR} (out), 23 ~{RD} (out), 24 DT0 (out), 25 TFS0 (io), 26 RFS0 (io), 27 GND (power), 28 GND (power), 29 DR0 (in), 30 SCLK0 (io), 31 FO/DT1 (out), 32 ~{IRQ}1/TFS1 (io), 33 ~{IRQ}0/RFS1 (io), 34 FI/DR1 (in), 35 SCLK1 (io), 36 VDD (power), 37 D0 (io), 38 D1 (io), 39 D2 (io), 40 D3 (io), 41 NC, 42 NC, 43 NC, 44 D4 (io), 45 D5 (io), 46 D6 (io), 47 D7 (io), 48 D8 (io), 49 D9 (io), 50 D10 (io), 51 D11 (io), 52 GND (power), 53 GND (power), 54 D12 (io), 55 D13 (io), 56 D14 (io), 57 D15 (io), 58 D16 (io), 59 D17 (io), 60 D18 (io), 61 GND (power), 62 GND (power), 63 D19 (io), 64 D20 (io), 65 D21 (io), 66 D22 (io), 67 D23 (io), 68 VDD (power), 69 VDD (power), 70 MMAP (in), 71 ~{BR} (in), 72 ~{IRQ}2 (io), 73 ~{RESET} (in), 74 A0 (out), 75 A1 (io), 76 A2 (io), 77 A3 (io), 78 A4 (io), 79 VDD (power), 80 VDD (power)

## ADSP-2101KS-80
designator U?
25 MIPS, 5V, 2 Serial Ports; Published: 24-Aug-2001; LatestRevisionDate: 13-Apr-2006; LatestRevisionNote: IPC-7351 Footprint Added.; DatasheetVersion: 1996; PackageVersion: 1996; PackageReference: S-80; Publisher: Altium Limited; PackageDescription: 80-Pin Quad Flat Pack 0.65 mm Pitch; Code_IPC: QFP65P1720X1720-80; ComponentLink1Description: Manufacturer Link; ComponentLink1URL: http://www.analog.com/; ComponentLink2Description: Datasheet; ComponentLink2URL: http://www.analog.com/UploadedFiles/Data_Sheets/88076770adsp21xx.pdf
footprint S-80_N (QFP, 80-Leads, Body 14 x 14mm, Pitch 0.65mm, IPC Medium Density)
footprint S-80_L (QFP, 80-Leads, Body 14 x 14mm, Pitch 0.65mm, IPC High Density)
footprint S-80_M (QFP, 80-Leads, Body 14 x 14mm, Pitch 0.65mm, IPC Low Density)
3D model 2101-S80 (80-Pin Quad Flat Pack 0.65 mm Pitch)
pins: 1 A5 (io), 2 A6 (io), 3 GND (power), 4 GND (power), 5 A7 (io), 6 A8 (io), 7 A9 (io), 8 A10 (io), 9 A11 (io), 10 A12 (io), 11 A13 (io), 12 ~{PMS} (out), 13 ~{DMS} (out), 14 ~{BMS} (out), 15 ~{BG} (out), 16 XTAL (in), 17 CLKIN (in), 18 NC, 19 NC, 20 NC, 21 CLKOUT (out), 22 ~{WR} (out), 23 ~{RD} (out), 24 DT0 (out), 25 TFS0 (io), 26 RFS0 (io), 27 GND (power), 28 GND (power), 29 DR0 (in), 30 SCLK0 (io), 31 FO/DT1 (out), 32 ~{IRQ}1/TFS1 (io), 33 ~{IRQ}0/RFS1 (io), 34 FI/DR1 (in), 35 SCLK1 (io), 36 VDD (power), 37 D0 (io), 38 D1 (io), 39 D2 (io), 40 D3 (io), 41 NC, 42 NC, 43 NC, 44 D4 (io), 45 D5 (io), 46 D6 (io), 47 D7 (io), 48 D8 (io), 49 D9 (io), 50 D10 (io), 51 D11 (io), 52 GND (power), 53 GND (power), 54 D12 (io), 55 D13 (io), 56 D14 (io), 57 D15 (io), 58 D16 (io), 59 D17 (io), 60 D18 (io), 61 GND (power), 62 GND (power), 63 D19 (io), 64 D20 (io), 65 D21 (io), 66 D22 (io), 67 D23 (io), 68 VDD (power), 69 VDD (power), 70 MMAP (in), 71 ~{BR} (in), 72 ~{IRQ}2 (io), 73 ~{RESET} (in), 74 A0 (out), 75 A1 (io), 76 A2 (io), 77 A3 (io), 78 A4 (io), 79 VDD (power), 80 VDD (power)

## ADSP-2101KS-100
designator U?
25 MIPS, 5V, 2 Serial Ports; Published: 24-Aug-2001; LatestRevisionDate: 13-Apr-2006; LatestRevisionNote: IPC-7351 Footprint Added.; DatasheetVersion: 1996; PackageVersion: 1996; PackageReference: S-80; Publisher: Altium Limited; PackageDescription: 80-Pin Quad Flat Pack 0.65 mm Pitch; Code_IPC: QFP65P1720X1720-80; ComponentLink1Description: Manufacturer Link; ComponentLink1URL: http://www.analog.com/; ComponentLink2Description: Datasheet; ComponentLink2URL: http://www.analog.com/UploadedFiles/Data_Sheets/88076770adsp21xx.pdf
footprint S-80_N (QFP, 80-Leads, Body 14 x 14mm, Pitch 0.65mm, IPC Medium Density)
footprint S-80_L (QFP, 80-Leads, Body 14 x 14mm, Pitch 0.65mm, IPC High Density)
footprint S-80_M (QFP, 80-Leads, Body 14 x 14mm, Pitch 0.65mm, IPC Low Density)
3D model 2101-S80 (80-Pin Quad Flat Pack 0.65 mm Pitch)
pins: 1 A5 (io), 2 A6 (io), 3 GND (power), 4 GND (power), 5 A7 (io), 6 A8 (io), 7 A9 (io), 8 A10 (io), 9 A11 (io), 10 A12 (io), 11 A13 (io), 12 ~{PMS} (out), 13 ~{DMS} (out), 14 ~{BMS} (out), 15 ~{BG} (out), 16 XTAL (in), 17 CLKIN (in), 18 NC, 19 NC, 20 NC, 21 CLKOUT (out), 22 ~{WR} (out), 23 ~{RD} (out), 24 DT0 (out), 25 TFS0 (io), 26 RFS0 (io), 27 GND (power), 28 GND (power), 29 DR0 (in), 30 SCLK0 (io), 31 FO/DT1 (out), 32 ~{IRQ}1/TFS1 (io), 33 ~{IRQ}0/RFS1 (io), 34 FI/DR1 (in), 35 SCLK1 (io), 36 VDD (power), 37 D0 (io), 38 D1 (io), 39 D2 (io), 40 D3 (io), 41 NC, 42 NC, 43 NC, 44 D4 (io), 45 D5 (io), 46 D6 (io), 47 D7 (io), 48 D8 (io), 49 D9 (io), 50 D10 (io), 51 D11 (io), 52 GND (power), 53 GND (power), 54 D12 (io), 55 D13 (io), 56 D14 (io), 57 D15 (io), 58 D16 (io), 59 D17 (io), 60 D18 (io), 61 GND (power), 62 GND (power), 63 D19 (io), 64 D20 (io), 65 D21 (io), 66 D22 (io), 67 D23 (io), 68 VDD (power), 69 VDD (power), 70 MMAP (in), 71 ~{BR} (in), 72 ~{IRQ}2 (io), 73 ~{RESET} (in), 74 A0 (out), 75 A1 (io), 76 A2 (io), 77 A3 (io), 78 A4 (io), 79 VDD (power), 80 VDD (power)

## ADSP-2101TG-50
designator U?
25 MIPS, 5V, 2 Serial Ports; Published: 24-Aug-2001; LatestRevisionDate: 04-Mar-2005; LatestRevisionNote: Stylized 3D Model Added.; DatasheetVersion: 1996; PackageReference: G-68A; Publisher: Altium Limited; PackageDescription: 69-Pin Pin Grid Array 2.54 mm Pitch; ComponentLink1Description: Manufacturer Link; ComponentLink1URL: http://www.analog.com/; ComponentLink2Description: Datasheet; ComponentLink2URL: http://www.analog.com/UploadedFiles/Data_Sheets/88076770adsp21xx.pdf
footprint G-68A (PGA, 69-Leads, Body 28x28mm, Pitch 2.54mm)
3D model 2101-G68A (69-Pin Pin Grid Array 2.54 mm Pitch)
pins: A2 D18 (io), A3 D16 (io), A4 D14 (io), A5 D12 (io), A6 D11 (io), A7 D9 (io), A8 D7 (io), A9 D5 (io), A10 D3 (io), B1 GND (power), B2 D19 (io), B3 D17 (io), B4 D15 (io), B5 D13 (io), B6 GND (power), B7 D10 (io), B8 D8 (io), B9 D6 (io), B10 D4 (io), B11 D2 (io), C1 D20 (io), C2 D21 (io), C3 INDEX, C10 D1 (io), C11 D0 (io), D1 D22 (io), D2 D23 (io), D10 VDD (power), D11 SCLK1 (io), E1 VDD (power), E2 MMAP (in), E10 FI/DR1 (in), E11 ~{IRQ}0/RFS1 (io), F1 ~{BR} (in), F2 ~{IRQ}2 (io), F10 ~{IRQ}1/TFS1 (io), F11 FO/DT1 (out), G1 ~{RESET} (in), G2 A0 (out), G10 SCLK0 (io), G11 DR0 (in), H1 A1 (io), H2 A2 (io), H10 GND (power), H11 RFS0 (io), J1 A3 (io), J2 A4 (io), J10 TFS0 (io), J11 DT0 (out), K1 VDD (power), K2 A6 (io), K3 A7 (io), K4 A9 (io), K5 A11 (io), K6 A13 (io), K7 ~{DMS} (out), K8 ~{BG} (out), K9 CLKIN (in), K10 ~{RD} (out), K11 ~{WR} (out), L2 A5 (io), L3 GND (power), L4 A8 (io), L5 A10 (io), L6 A12 (io), L7 ~{PMS} (out), L8 ~{BMS} (out), L9 XTAL (in), L10 CLKOUT (out)

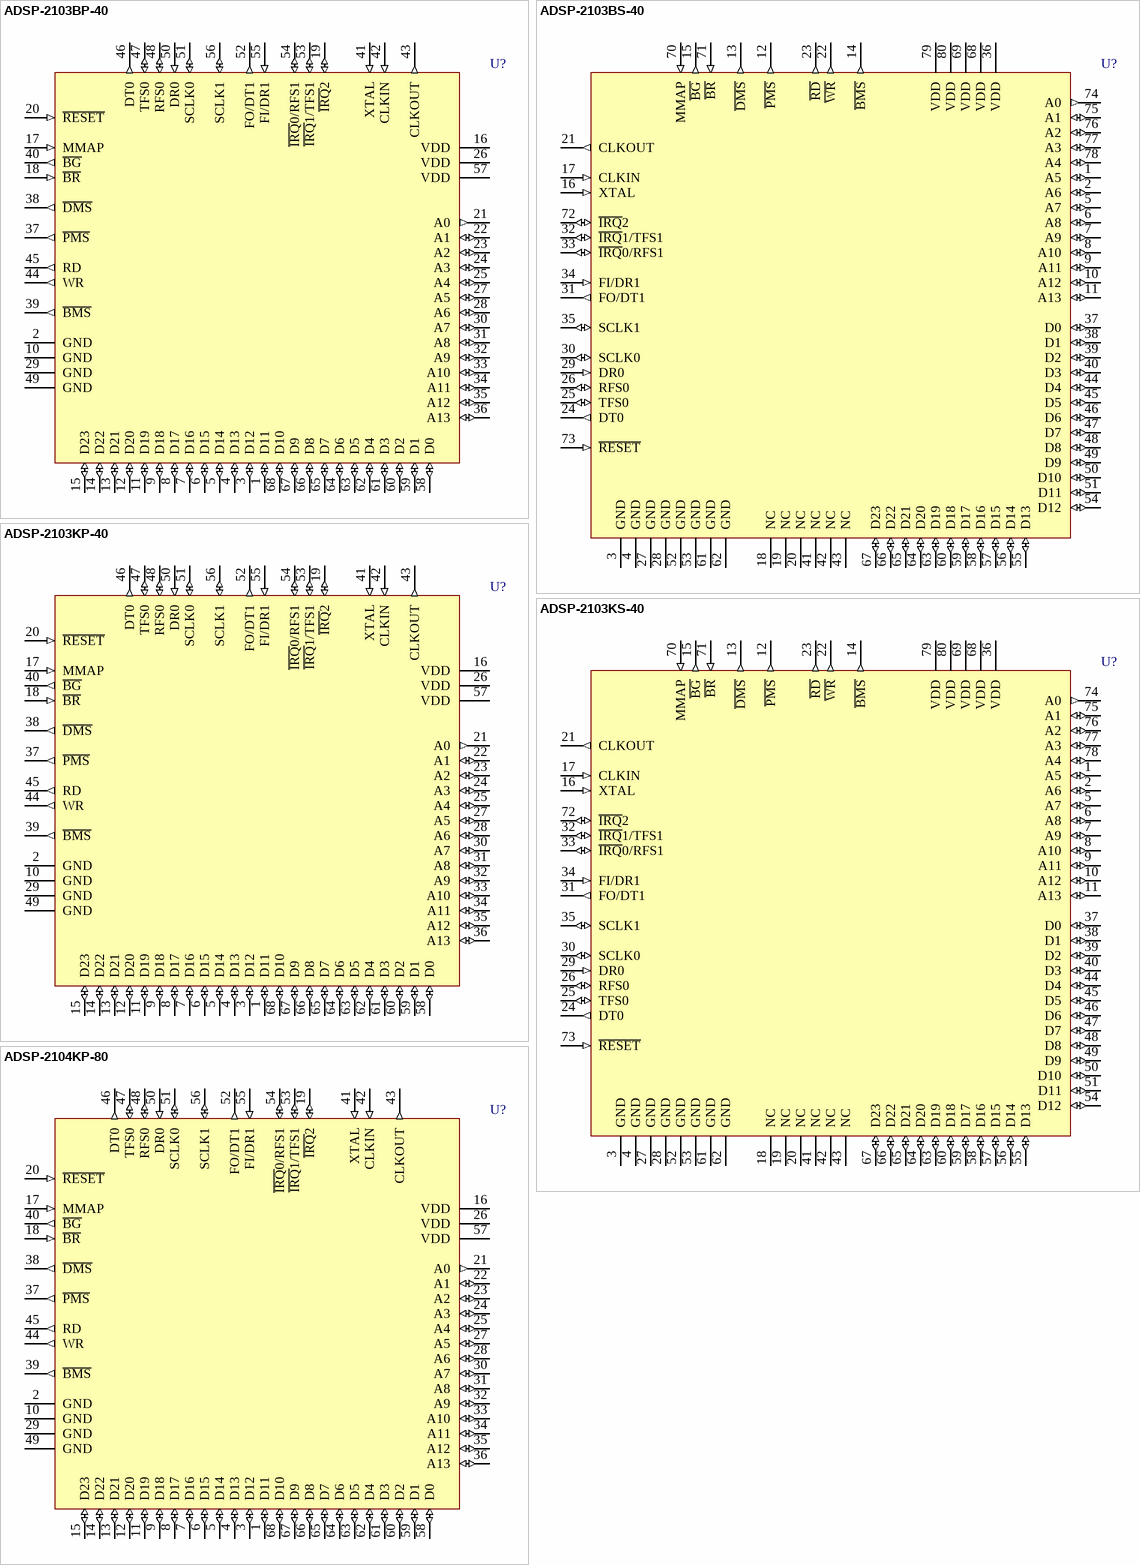
[diagram p7: symbols ADSP-2103BP-40 to ADSP-2104KP-80]

## ADSP-2103BP-40
designator U?
10.2 MIPS, 3.3V, 2 Serial Ports; Published: 24-Aug-2001; LatestRevisionDate: 13-Apr-2006; LatestRevisionNote: IPC-7351 Footprint Added.; DatasheetVersion: 1996; PackageReference: P-68A; Publisher: Altium Limited; PackageDescription: 68-Pin Leaded Chip Carrier 1.27 mm Pitch; Code_IPC: PLCC-68; ComponentLink1Description: Manufacturer Link; ComponentLink1URL: http://www.analog.com/; ComponentLink2Description: Datasheet; ComponentLink2URL: http://www.analog.com/UploadedFiles/Data_Sheets/88076770adsp21xx.pdf
footprint P-68A_N (Leaded Chip Carrier, 68-Leads, Body 24x24mm, Pitch 1.27mm, IPC Medium Density)
footprint P-68A_L (Leaded Chip Carrier, 68-Leads, Body 24x24mm, Pitch 1.27mm, IPC High Density)
footprint P-68A_M (Leaded Chip Carrier, 68-Leads, Body 24x24mm, Pitch 1.27mm, IPC Low Density)
3D model 2103-P-68A (68-Pin Leaded Chip Carrier 1.27 mm Pitch)
pins: 1 D11 (io), 2 GND (power), 3 D12 (io), 4 D13 (io), 5 D14 (io), 6 D15 (io), 7 D16 (io), 8 D17 (io), 9 D18 (io), 10 GND (power), 11 D19 (io), 12 D20 (io), 13 D21 (io), 14 D22 (io), 15 D23 (io), 16 VDD (power), 17 MMAP (in), 18 ~{BR} (in), 19 ~{IRQ}2 (io), 20 ~{RESET} (in), 21 A0 (out), 22 A1 (io), 23 A2 (io), 24 A3 (io), 25 A4 (io), 26 VDD (power), 27 A5 (io), 28 A6 (io), 29 GND (power), 30 A7 (io), 31 A8 (io), 32 A9 (io), 33 A10 (io), 34 A11 (io), 35 A12 (io), 36 A13 (io), 37 ~{PMS} (out), 38 ~{DMS} (out), 39 ~{BMS} (out), 40 ~{BG} (out), 41 XTAL (in), 42 CLKIN (in), 43 CLKOUT (out), 44 WR (out), 45 RD (out), 46 DT0 (out), 47 TFS0 (io), 48 RFS0 (io), 49 GND (power), 50 DR0 (in), 51 SCLK0 (io), 52 FO/DT1 (out), 53 ~{IRQ}1/TFS1 (io), 54 ~{IRQ}0/RFS1 (io), 55 FI/DR1 (in), 56 SCLK1 (io), 57 VDD (power), 58 D0 (io), 59 D1 (io), 60 D2 (io), 61 D3 (io), 62 D4 (io), 63 D5 (io), 64 D6 (io), 65 D7 (io), 66 D8 (io), 67 D9 (io), 68 D10 (io)

## ADSP-2103BS-40
designator U?
10.2 MIPS, 3.3V, 2 Serial Ports; Published: 24-Aug-2001; LatestRevisionDate: 13-Apr-2006; LatestRevisionNote: IPC-7351 Footprint Added.; DatasheetVersion: 1996; PackageVersion: 1996; PackageReference: S-80; Publisher: Altium Limited; PackageDescription: 80-Pin Quad Flat Pack 0.65 mm Pitch; Code_IPC: QFP65P1720X1720-80; ComponentLink1Description: Manufacturer Link; ComponentLink1URL: http://www.analog.com/; ComponentLink2Description: Datasheet; ComponentLink2URL: http://www.analog.com/UploadedFiles/Data_Sheets/88076770adsp21xx.pdf
footprint S-80_N (QFP, 80-Leads, Body 14 x 14mm, Pitch 0.65mm, IPC Medium Density)
footprint S-80_L (QFP, 80-Leads, Body 14 x 14mm, Pitch 0.65mm, IPC High Density)
footprint S-80_M (QFP, 80-Leads, Body 14 x 14mm, Pitch 0.65mm, IPC Low Density)
3D model 2103-S80 (80-Pin Quad Flat Pack 0.65 mm Pitch)
pins: 1 A5 (io), 2 A6 (io), 3 GND (power), 4 GND (power), 5 A7 (io), 6 A8 (io), 7 A9 (io), 8 A10 (io), 9 A11 (io), 10 A12 (io), 11 A13 (io), 12 ~{PMS} (out), 13 ~{DMS} (out), 14 ~{BMS} (out), 15 ~{BG} (out), 16 XTAL (in), 17 CLKIN (in), 18 NC, 19 NC, 20 NC, 21 CLKOUT (out), 22 ~{WR} (out), 23 ~{RD} (out), 24 DT0 (out), 25 TFS0 (io), 26 RFS0 (io), 27 GND (power), 28 GND (power), 29 DR0 (in), 30 SCLK0 (io), 31 FO/DT1 (out), 32 ~{IRQ}1/TFS1 (io), 33 ~{IRQ}0/RFS1 (io), 34 FI/DR1 (in), 35 SCLK1 (io), 36 VDD (power), 37 D0 (io), 38 D1 (io), 39 D2 (io), 40 D3 (io), 41 NC, 42 NC, 43 NC, 44 D4 (io), 45 D5 (io), 46 D6 (io), 47 D7 (io), 48 D8 (io), 49 D9 (io), 50 D10 (io), 51 D11 (io), 52 GND (power), 53 GND (power), 54 D12 (io), 55 D13 (io), 56 D14 (io), 57 D15 (io), 58 D16 (io), 59 D17 (io), 60 D18 (io), 61 GND (power), 62 GND (power), 63 D19 (io), 64 D20 (io), 65 D21 (io), 66 D22 (io), 67 D23 (io), 68 VDD (power), 69 VDD (power), 70 MMAP (in), 71 ~{BR} (in), 72 ~{IRQ}2 (io), 73 ~{RESET} (in), 74 A0 (out), 75 A1 (io), 76 A2 (io), 77 A3 (io), 78 A4 (io), 79 VDD (power), 80 VDD (power)